# Altium integrated library Microchip PIC24E.IntLib: 110 symbols (part 6 of 8)
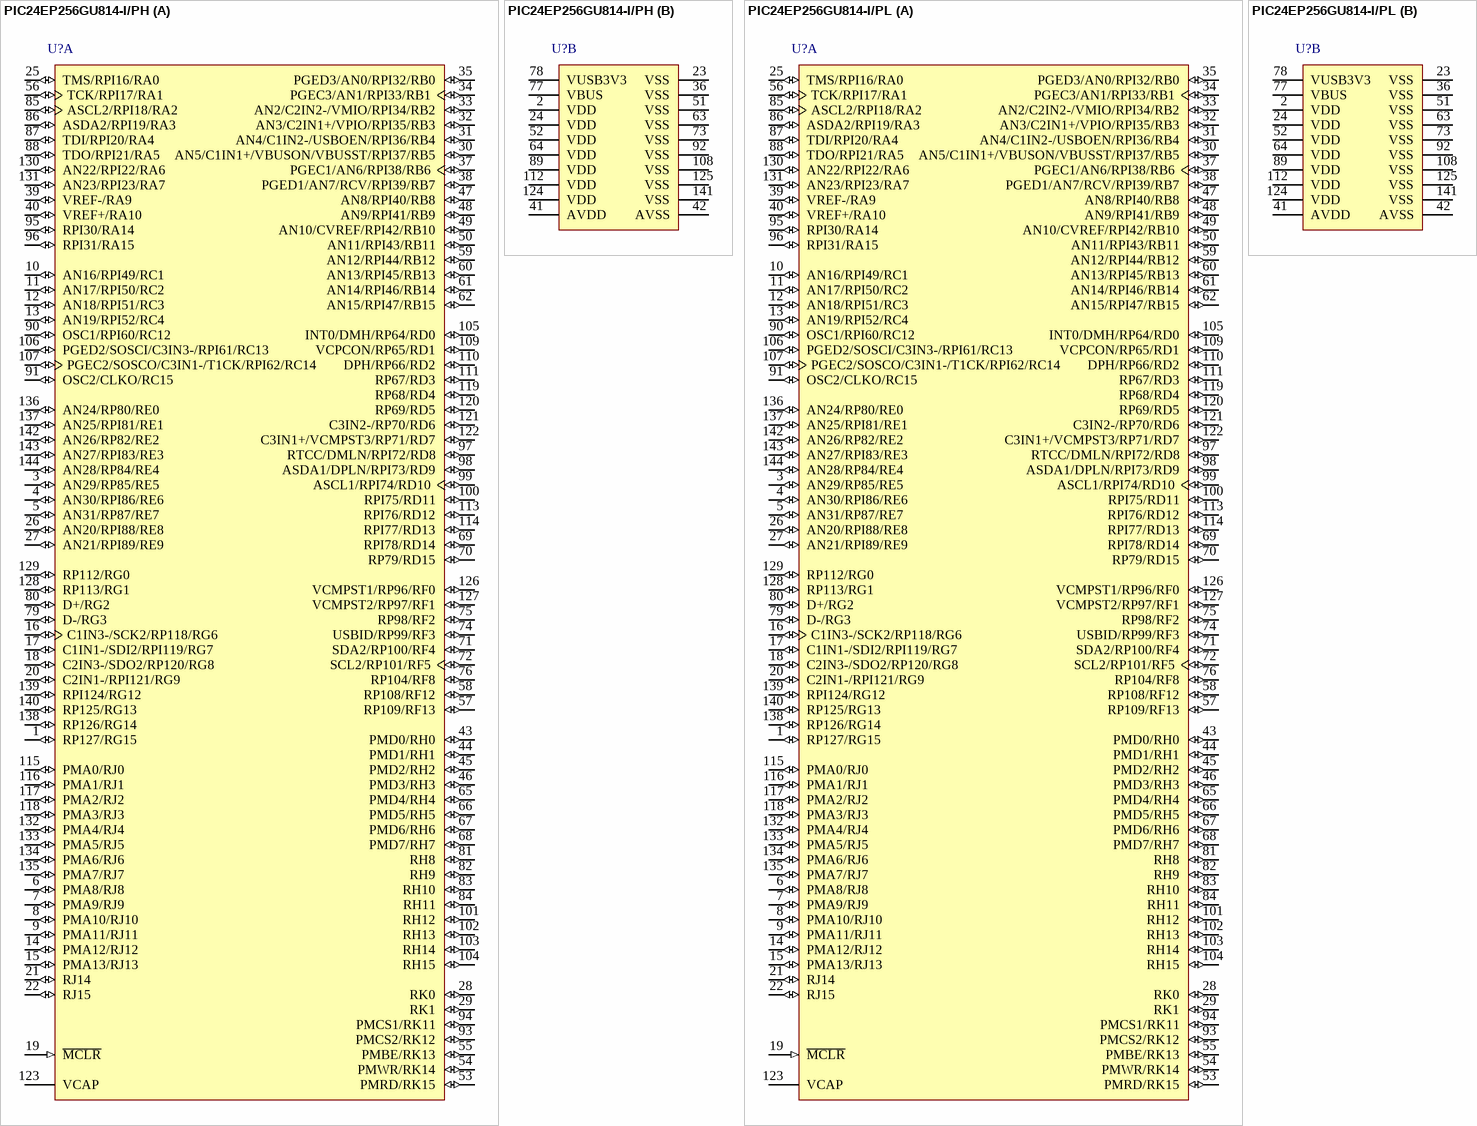
[diagram p38: symbols PIC24EP256GU814-I/PH to PIC24EP256GU814-I/PL]

## PIC24EP256GU814-I/PL
designator U?
16-Bit Microcontroller and Digital Signal Controllers with High-Speed PWM, USB and Advanced Analog, -40 to 85 degC, 144-pin LQFP (PL144), Tray; Manufacturer: Microchip; PartNumber: PIC24EP256GU814-I/PL; DatasheetVersion: Rev. G; PackageVersion: C04-044B; PackageReference: LQFP-PL144; PackageDescription: 144-Lead Plastic Low Profile Quad Flatpack, 20 x 20 mm Body, 0.5 mm Pitch; Supplier 1: Digi-Key; Supplier Part Number 1: PIC24EP256GU814-I/PL-ND; Supplier 2: Farnell; Supplier Part Number 2: 2062986; Supplier 3: Newark; Supplier Part Number 3: 65R6076; Supplier 4: Mouser; Supplier Part Number 4: 579-PIC24EPGU814IPL; Mounting Technology: Surface Mount; ComponentLink1Description: Manufacturer URL; ComponentLink1URL: http://www.microchip.com; ComponentLink2Description: Datasheet; ComponentLink2URL: http://ww1.microchip.com/downloads/en/DeviceDoc/70616g.pdf; ComponentLink3Description: Package Specification; ComponentLink3URL: http://www.microchip.com/stellent/groups/techpub_sg/documents/packagingspec/en012702.pdf; ComponentLink4Description: Product URL; ComponentLink4URL: http://www.microchip.com/PIC24EP256GU814
footprint MCHP-LQFP-PL144_N (QFP, 144-Leads, Body 20x20mm, Pitch 0.5mm, IPC Medium Density)
footprint MCHP-LQFP-PL144_L (QFP, 144-Leads, Body 20x20mm, Pitch 0.5mm, IPC High Density)
footprint MCHP-LQFP-PL144_M (QFP, 144-Leads, Body 20x20mm, Pitch 0.5mm, IPC Low Density)
part A pins: 1 RP127/RG15 (io), 3 AN29/RP85/RE5 (io), 4 AN30/RPI86/RE6 (io), 5 AN31/RP87/RE7 (io), 6 PMA8/RJ8 (io), 7 PMA9/RJ9 (io), 8 PMA10/RJ10 (io), 9 PMA11/RJ11 (io), 10 AN16/RPI49/RC1 (io), 11 AN17/RPI50/RC2 (io), 12 AN18/RPI51/RC3 (io), 13 AN19/RPI52/RC4 (io), 14 PMA12/RJ12 (io), 15 PMA13/RJ13 (io), 16 C1IN3-/SCK2/RP118/RG6 (io), 17 C1IN1-/SDI2/RPI119/RG7 (io), 18 C2IN3-/SDO2/RP120/RG8 (io), 19 ~{MCLR} (in), 20 C2IN1-/RPI121/RG9 (io), 21 RJ14 (io) "PORTJ is a bidirectional I/O port.", 22 RJ15 (io) "PORTJ is a bidirectional I/O port.", 25 TMS/RPI16/RA0 (io), 26 AN20/RPI88/RE8 (io), 27 AN21/RPI89/RE9 (io), 28 RK0 (io) "PORTK is a bidirectional I/O port.", 29 RK1 (io) "PORTK is a bidirectional I/O port.", 30 AN5/C1IN1+/VBUSON/VBUSST/RPI37/RB5 (io), 31 AN4/C1IN2-/USBOEN/RPI36/RB4 (io), 32 AN3/C2IN1+/VPIO/RPI35/RB3 (io), 33 AN2/C2IN2-/VMIO/RPI34/RB2 (io), 34 PGEC3/AN1/RPI33/RB1 (io), 35 PGED3/AN0/RPI32/RB0 (io), 37 PGEC1/AN6/RPI38/RB6 (io), 38 PGED1/AN7/RCV/RPI39/RB7 (io), 39 VREF-/RA9 (io), 40 VREF+/RA10 (io), 43 PMD0/RH0 (io), 44 PMD1/RH1 (io), 45 PMD2/RH2 (io), 46 PMD3/RH3 (io), 47 AN8/RPI40/RB8 (io), 48 AN9/RPI41/RB9 (io), 49 AN10/CVREF/RPI42/RB10 (io), 50 AN11/RPI43/RB11 (io), 53 PMRD/RK15 (io), 54 PMWR/RK14 (io), 55 PMBE/RK13 (io), 56 TCK/RPI17/RA1 (io), 57 RP109/RF13 (io), 58 RP108/RF12 (io), 59 AN12/RPI44/RB12 (io), 60 AN13/RPI45/RB13 (io), 61 AN14/RPI46/RB14 (io), 62 AN15/RPI47/RB15 (io), 65 PMD4/RH4 (io), 66 PMD5/RH5 (io), 67 PMD6/RH6 (io), 68 PMD7/RH7 (io), 69 RPI78/RD14 (io), 70 RP79/RD15 (io), 71 SDA2/RP100/RF4 (io), 72 SCL2/RP101/RF5 (io), 74 USBID/RP99/RF3 (io), 75 RP98/RF2 (io), 76 RP104/RF8 (io), 79 D-/RG3 (io), 80 D+/RG2 (io), 81 RH8 (io) "PORTH is a bidirectional I/O port.", 82 RH9 (io) "PORTH is a bidirectional I/O port.", 83 RH10 (io) "PORTH is a bidirectional I/O port.", 84 RH11 (io) "PORTH is a bidirectional I/O port.", 85 ASCL2/RPI18/RA2 (io), 86 ASDA2/RPI19/RA3 (io), 87 TDI/RPI20/RA4 (io), 88 TDO/RPI21/RA5 (io), 90 OSC1/RPI60/RC12 (io), 91 OSC2/CLKO/RC15 (io), 93 PMCS2/RK12 (io), 94 PMCS1/RK11 (io), 95 RPI30/RA14 (io), 96 RPI31/RA15 (io), 97 RTCC/DMLN/RPI72/RD8 (io), 98 ASDA1/DPLN/RPI73/RD9 (io), 99 ASCL1/RPI74/RD10 (io), 100 RPI75/RD11 (io), 101 RH12 (io) "PORTH is a bidirectional I/O port.", 102 RH13 (io) "PORTH is a bidirectional I/O port.", 103 RH14 (io) "PORTH is a bidirectional I/O port.", 104 RH15 (io) "PORTH is a bidirectional I/O port.", 105 INT0/DMH/RP64/RD0 (io), 106 PGED2/SOSCI/C3IN3-/RPI61/RC13 (io), 107 PGEC2/SOSCO/C3IN1-/T1CK/RPI62/RC14 (io), 109 VCPCON/RP65/RD1 (io), 110 DPH/RP66/RD2 (io), 111 RP67/RD3 (io), 113 RPI76/RD12 (io), 114 RPI77/RD13 (io), 115 PMA0/RJ0 (io), 116 PMA1/RJ1 (io), 117 PMA2/RJ2 (io), 118 PMA3/RJ3 (io), 119 RP68/RD4 (io), 120 RP69/RD5 (io), 121 C3IN2-/RP70/RD6 (io), 122 C3IN1+/VCMPST3/RP71/RD7 (io), 123 VCAP "CPU logic filter capacitor connection.", 126 VCMPST1/RP96/RF0 (io), 127 VCMPST2/RP97/RF1 (io), 128 RP113/RG1 (io), 129 RP112/RG0 (io), 130 AN22/RPI22/RA6 (io), 131 AN23/RPI23/RA7 (io), 132 PMA4/RJ4 (io), 133 PMA5/RJ5 (io), 134 PMA6/RJ6 (io), 135 PMA7/RJ7 (io), 136 AN24/RP80/RE0 (io), 137 AN25/RPI81/RE1 (io), 138 RP126/RG14 (io), 139 RPI124/RG12 (io), 140 RP125/RG13 (io), 142 AN26/RP82/RE2 (io), 143 AN27/RPI83/RE3 (io), 144 AN28/RP84/RE4 (io)
part B pins: 2 VDD (power) "Positive supply for peripheral logic and I/O pins.", 23 VSS (power) "Ground reference for logic and I/O pins.", 24 VDD (power) "Positive supply for peripheral logic and I/O pins.", 36 VSS (power), 41 AVDD (power) "Positive supply for analog modules. This pin must be connected at all times.", 42 AVSS (power) "Ground reference for analog modules.", 51 VSS (power) "Ground reference for logic and I/O pins.", 52 VDD (power) "Positive supply for peripheral logic and I/O pins.", 63 VSS (power) "Ground reference for logic and I/O pins.", 64 VDD (power) "Positive supply for peripheral logic and I/O pins.", 73 VSS (power) "Ground reference for logic and I/O pins.", 77 VBUS (power) "USB bus power monitor.", 78 VUSB3V3 (power) "USB internal transceiver supply. If the USB module is not being used, this pin must be connected to VDD.", 89 VDD (power) "Positive supply for peripheral logic and I/O pins.", 92 VSS (power) "Ground reference for logic and I/O pins.", 108 VSS (power) "Ground reference for logic and I/O pins.", 112 VDD (power) "Positive supply for peripheral logic and I/O pins.", 124 VDD (power) "Positive supply for peripheral logic and I/O pins.", 125 VSS (power) "Ground reference for logic and I/O pins.", 141 VSS (power) "Ground reference for logic and I/O pins."

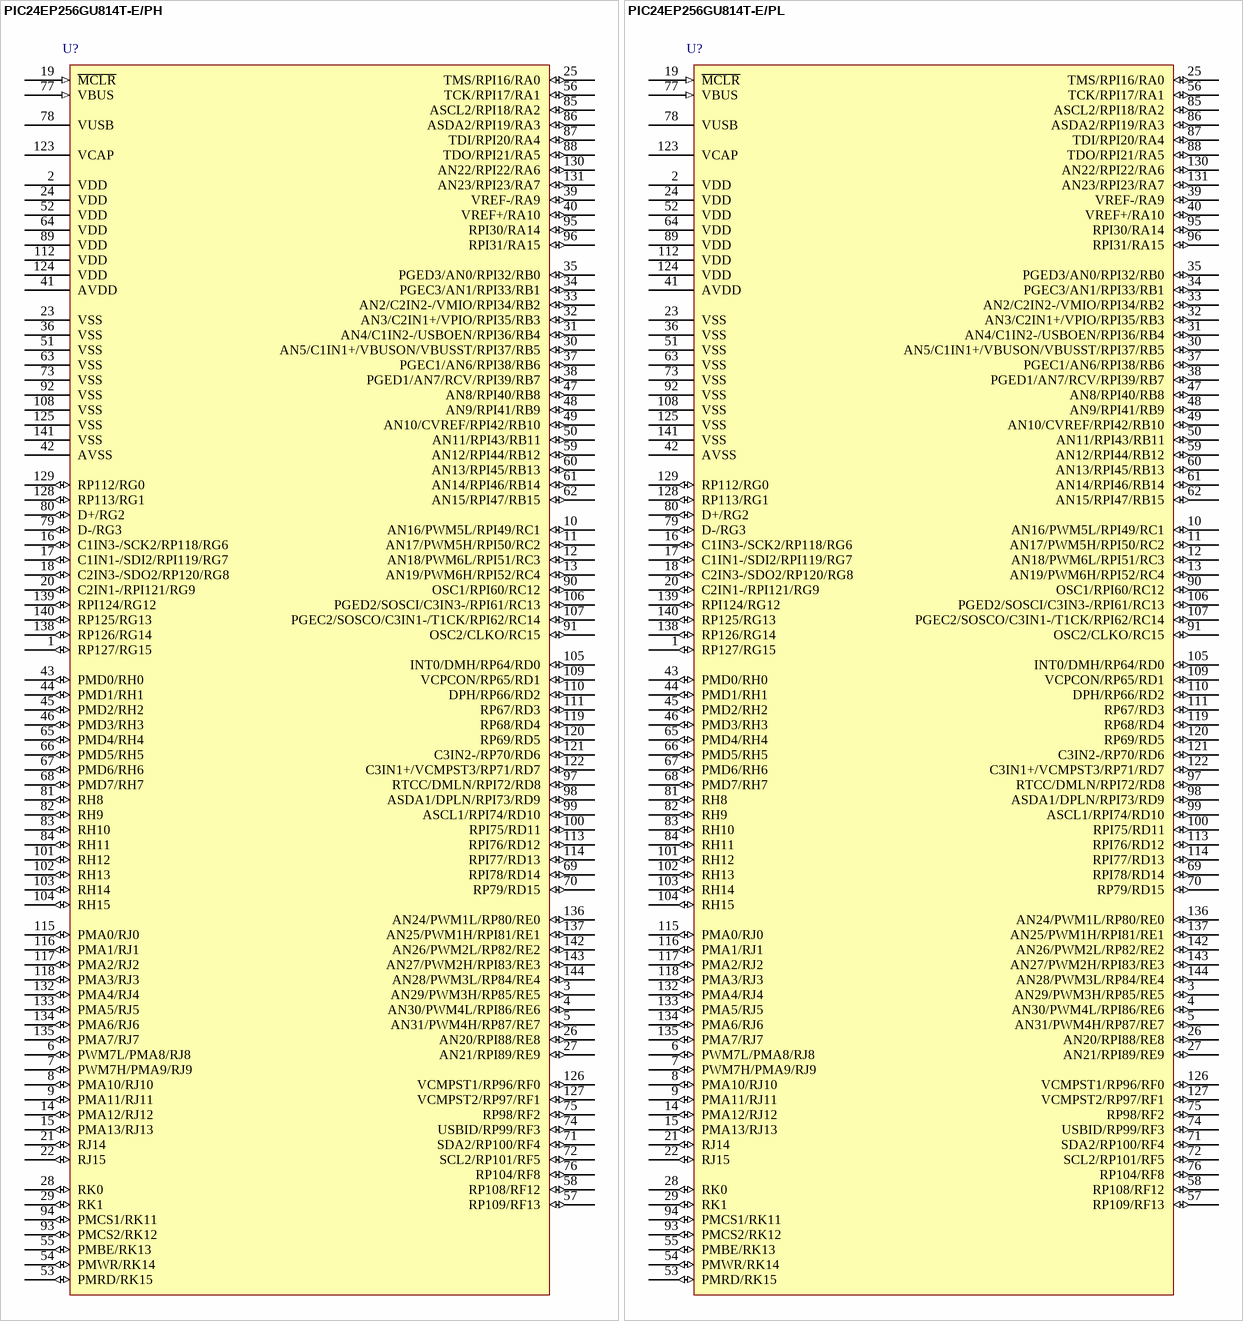
[diagram p20: symbols PIC24EP256GU814T-E/PH to PIC24EP256GU814T-E/PL]

## PIC24EP256GU814T-E/PH
designator U?
General Purpose 16-bit Microcontroller with USB, Enhanced Performance Flash Memory, 256 KB Program Memory, 144-Pin TQFP, Extended Temperature; Manufacturer: Microchip; PartNumber: PIC24EP256GU814T-E/PH; DatasheetVersion: Aug-2011; PackageVersion: revBG, Mar-2011; PackageReference: TQFP-PH144; PackageDescription: 144-Lead Plastic Thin Quad Flatpack (PH) - 16x16x1mm Body, 2.00mm Footprint [TQFP]; Mounting Technology: Surface Mount; ComponentLink1Description: Manufacturer URL; ComponentLink1URL: http://www.microchip.com/; ComponentLink2Description: Datasheet; ComponentLink2URL: http://ww1.microchip.com/downloads/en/DeviceDoc/70616E.pdf; ComponentLink3Description: Package Specification; ComponentLink3URL: http://www.microchip.com/stellent/groups/techpub_sg/documents/packagingspec/en012702.pdf
footprint TQFP-PH144_N (Thin QFP, 144-Leads, Body 16x16mm, Pitch 0.4mm, IPC Medium Density)
footprint TQFP-PH144_L (Thin QFP, 144-Leads, Body 16x16mm, Pitch 0.4mm, IPC High Density)
footprint TQFP-PH144_M (Thin QFP, 144-Leads, Body 16x16mm, Pitch 0.4mm, IPC Low Density)
pins: 1 RP127/RG15 (io), 2 VDD (power), 3 AN29/PWM3H/RP85/RE5 (io), 4 AN30/PWM4L/RPI86/RE6 (io), 5 AN31/PWM4H/RP87/RE7 (io), 6 PWM7L/PMA8/RJ8 (io), 7 PWM7H/PMA9/RJ9 (io), 8 PMA10/RJ10 (io), 9 PMA11/RJ11 (io), 10 AN16/PWM5L/RPI49/RC1 (io), 11 AN17/PWM5H/RPI50/RC2 (io), 12 AN18/PWM6L/RPI51/RC3 (io), 13 AN19/PWM6H/RPI52/RC4 (io), 14 PMA12/RJ12 (io), 15 PMA13/RJ13 (io), 16 C1IN3-/SCK2/RP118/RG6 (io), 17 C1IN1-/SDI2/RPI119/RG7 (io), 18 C2IN3-/SDO2/RP120/RG8 (io), 19 ~{MCLR} (in), 20 C2IN1-/RPI121/RG9 (io), 21 RJ14 (io), 22 RJ15 (io), 23 VSS (power), 24 VDD (power), 25 TMS/RPI16/RA0 (io), 26 AN20/RPI88/RE8 (io), 27 AN21/RPI89/RE9 (io), 28 RK0 (io), 29 RK1 (io), 30 AN5/C1IN1+/VBUSON/VBUSST/RPI37/RB5 (io), 31 AN4/C1IN2-/USBOEN/RPI36/RB4 (io), 32 AN3/C2IN1+/VPIO/RPI35/RB3 (io), 33 AN2/C2IN2-/VMIO/RPI34/RB2 (io), 34 PGEC3/AN1/RPI33/RB1 (io), 35 PGED3/AN0/RPI32/RB0 (io), 36 VSS (power), 37 PGEC1/AN6/RPI38/RB6 (io), 38 PGED1/AN7/RCV/RPI39/RB7 (io), 39 VREF-/RA9 (io), 40 VREF+/RA10 (io), 41 AVDD (power), 42 AVSS (power), 43 PMD0/RH0 (io), 44 PMD1/RH1 (io), 45 PMD2/RH2 (io), 46 PMD3/RH3 (io), 47 AN8/RPI40/RB8 (io), 48 AN9/RPI41/RB9 (io), 49 AN10/CVREF/RPI42/RB10 (io), 50 AN11/RPI43/RB11 (io), 51 VSS (power), 52 VDD (power), 53 PMRD/RK15 (io), 54 PMWR/RK14 (io), 55 PMBE/RK13 (io), 56 TCK/RPI17/RA1 (io), 57 RP109/RF13 (io), 58 RP108/RF12 (io), 59 AN12/RPI44/RB12 (io), 60 AN13/RPI45/RB13 (io), 61 AN14/RPI46/RB14 (io), 62 AN15/RPI47/RB15 (io), 63 VSS (power), 64 VDD (power), 65 PMD4/RH4 (io), 66 PMD5/RH5 (io), 67 PMD6/RH6 (io), 68 PMD7/RH7 (io), 69 RPI78/RD14 (io), 70 RP79/RD15 (io), 71 SDA2/RP100/RF4 (io), 72 SCL2/RP101/RF5 (io), 73 VSS (power), 74 USBID/RP99/RF3 (io), 75 RP98/RF2 (io), 76 RP104/RF8 (io), 77 VBUS (in), 78 VUSB (power), 79 D-/RG3 (io), 80 D+/RG2 (io), 81 RH8 (io), 82 RH9 (io), 83 RH10 (io), 84 RH11 (io), 85 ASCL2/RPI18/RA2 (io), 86 ASDA2/RPI19/RA3 (io), 87 TDI/RPI20/RA4 (io), 88 TDO/RPI21/RA5 (io), 89 VDD (power), 90 OSC1/RPI60/RC12 (io), 91 OSC2/CLKO/RC15 (io), 92 VSS (power), 93 PMCS2/RK12 (io), 94 PMCS1/RK11 (io), 95 RPI30/RA14 (io), 96 RPI31/RA15 (io), 97 RTCC/DMLN/RPI72/RD8 (io), 98 ASDA1/DPLN/RPI73/RD9 (io), 99 ASCL1/RPI74/RD10 (io), 100 RPI75/RD11 (io), 101 RH12 (io), 102 RH13 (io), 103 RH14 (io), 104 RH15 (io), 105 INT0/DMH/RP64/RD0 (io), 106 PGED2/SOSCI/C3IN3-/RPI61/RC13 (io), 107 PGEC2/SOSCO/C3IN1-/T1CK/RPI62/RC14 (io), 108 VSS (power), 109 VCPCON/RP65/RD1 (io), 110 DPH/RP66/RD2 (io), 111 RP67/RD3 (io), 112 VDD (power), 113 RPI76/RD12 (io), 114 RPI77/RD13 (io), 115 PMA0/RJ0 (io), 116 PMA1/RJ1 (io), 117 PMA2/RJ2 (io), 118 PMA3/RJ3 (io), 119 RP68/RD4 (io), 120 RP69/RD5 (io), 121 C3IN2-/RP70/RD6 (io), 122 C3IN1+/VCMPST3/RP71/RD7 (io), 123 VCAP, 124 VDD (power), 125 VSS (power), 126 VCMPST1/RP96/RF0 (io), 127 VCMPST2/RP97/RF1 (io), 128 RP113/RG1 (io), 129 RP112/RG0 (io), 130 AN22/RPI22/RA6 (io), 131 AN23/RPI23/RA7 (io), 132 PMA4/RJ4 (io), 133 PMA5/RJ5 (io), 134 PMA6/RJ6 (io), 135 PMA7/RJ7 (io), 136 AN24/PWM1L/RP80/RE0 (io), 137 AN25/PWM1H/RPI81/RE1 (io), 138 RP126/RG14 (io), 139 RPI124/RG12 (io), 140 RP125/RG13 (io), 141 VSS (power), 142 AN26/PWM2L/RP82/RE2 (io), 143 AN27/PWM2H/RPI83/RE3 (io), 144 AN28/PWM3L/RP84/RE4 (io)

## PIC24EP256GU814T-E/PL
designator U?
General Purpose 16-bit Microcontroller with USB, Enhanced Performance Flash Memory, 256 KB Program Memory, 144-Pin LQFP, Extended Temperature; Manufacturer: Microchip; PartNumber: PIC24EP256GU814T-E/PL; DatasheetVersion: Aug-2011; PackageVersion: revBG, Mar-2011; PackageReference: LQFP-PL144; PackageDescription: 144-Lead Plastic Low Profile Quad Flatpack (PL) - 20x20x1.4mm Body, 2.00mm Footprint [LQFP]; Mounting Technology: Surface Mount; ComponentLink1Description: Manufacturer URL; ComponentLink1URL: http://www.microchip.com/; ComponentLink2Description: Datasheet; ComponentLink2URL: http://ww1.microchip.com/downloads/en/DeviceDoc/70616E.pdf; ComponentLink3Description: Package Specification; ComponentLink3URL: http://www.microchip.com/stellent/groups/techpub_sg/documents/packagingspec/en012702.pdf
footprint LQFP-PL144_N (Thin QFP, 144-Leads, Body 20x20mm, Pitch 0.5mm, IPC Medium Density)
footprint LQFP-PL144_L (Thin QFP, 144-Leads, Body 20x20mm, Pitch 0.5mm, IPC High Density)
footprint LQFP-PL144_M (Thin QFP, 144-Leads, Body 20x20mm, Pitch 0.5mm, IPC Low Density)
pins: 1 RP127/RG15 (io), 2 VDD (power), 3 AN29/PWM3H/RP85/RE5 (io), 4 AN30/PWM4L/RPI86/RE6 (io), 5 AN31/PWM4H/RP87/RE7 (io), 6 PWM7L/PMA8/RJ8 (io), 7 PWM7H/PMA9/RJ9 (io), 8 PMA10/RJ10 (io), 9 PMA11/RJ11 (io), 10 AN16/PWM5L/RPI49/RC1 (io), 11 AN17/PWM5H/RPI50/RC2 (io), 12 AN18/PWM6L/RPI51/RC3 (io), 13 AN19/PWM6H/RPI52/RC4 (io), 14 PMA12/RJ12 (io), 15 PMA13/RJ13 (io), 16 C1IN3-/SCK2/RP118/RG6 (io), 17 C1IN1-/SDI2/RPI119/RG7 (io), 18 C2IN3-/SDO2/RP120/RG8 (io), 19 ~{MCLR} (in), 20 C2IN1-/RPI121/RG9 (io), 21 RJ14 (io), 22 RJ15 (io), 23 VSS (power), 24 VDD (power), 25 TMS/RPI16/RA0 (io), 26 AN20/RPI88/RE8 (io), 27 AN21/RPI89/RE9 (io), 28 RK0 (io), 29 RK1 (io), 30 AN5/C1IN1+/VBUSON/VBUSST/RPI37/RB5 (io), 31 AN4/C1IN2-/USBOEN/RPI36/RB4 (io), 32 AN3/C2IN1+/VPIO/RPI35/RB3 (io), 33 AN2/C2IN2-/VMIO/RPI34/RB2 (io), 34 PGEC3/AN1/RPI33/RB1 (io), 35 PGED3/AN0/RPI32/RB0 (io), 36 VSS (power), 37 PGEC1/AN6/RPI38/RB6 (io), 38 PGED1/AN7/RCV/RPI39/RB7 (io), 39 VREF-/RA9 (io), 40 VREF+/RA10 (io), 41 AVDD (power), 42 AVSS (power), 43 PMD0/RH0 (io), 44 PMD1/RH1 (io), 45 PMD2/RH2 (io), 46 PMD3/RH3 (io), 47 AN8/RPI40/RB8 (io), 48 AN9/RPI41/RB9 (io), 49 AN10/CVREF/RPI42/RB10 (io), 50 AN11/RPI43/RB11 (io), 51 VSS (power), 52 VDD (power), 53 PMRD/RK15 (io), 54 PMWR/RK14 (io), 55 PMBE/RK13 (io), 56 TCK/RPI17/RA1 (io), 57 RP109/RF13 (io), 58 RP108/RF12 (io), 59 AN12/RPI44/RB12 (io), 60 AN13/RPI45/RB13 (io), 61 AN14/RPI46/RB14 (io), 62 AN15/RPI47/RB15 (io), 63 VSS (power), 64 VDD (power), 65 PMD4/RH4 (io), 66 PMD5/RH5 (io), 67 PMD6/RH6 (io), 68 PMD7/RH7 (io), 69 RPI78/RD14 (io), 70 RP79/RD15 (io), 71 SDA2/RP100/RF4 (io), 72 SCL2/RP101/RF5 (io), 73 VSS (power), 74 USBID/RP99/RF3 (io), 75 RP98/RF2 (io), 76 RP104/RF8 (io), 77 VBUS (in), 78 VUSB (power), 79 D-/RG3 (io), 80 D+/RG2 (io), 81 RH8 (io), 82 RH9 (io), 83 RH10 (io), 84 RH11 (io), 85 ASCL2/RPI18/RA2 (io), 86 ASDA2/RPI19/RA3 (io), 87 TDI/RPI20/RA4 (io), 88 TDO/RPI21/RA5 (io), 89 VDD (power), 90 OSC1/RPI60/RC12 (io), 91 OSC2/CLKO/RC15 (io), 92 VSS (power), 93 PMCS2/RK12 (io), 94 PMCS1/RK11 (io), 95 RPI30/RA14 (io), 96 RPI31/RA15 (io), 97 RTCC/DMLN/RPI72/RD8 (io), 98 ASDA1/DPLN/RPI73/RD9 (io), 99 ASCL1/RPI74/RD10 (io), 100 RPI75/RD11 (io), 101 RH12 (io), 102 RH13 (io), 103 RH14 (io), 104 RH15 (io), 105 INT0/DMH/RP64/RD0 (io), 106 PGED2/SOSCI/C3IN3-/RPI61/RC13 (io), 107 PGEC2/SOSCO/C3IN1-/T1CK/RPI62/RC14 (io), 108 VSS (power), 109 VCPCON/RP65/RD1 (io), 110 DPH/RP66/RD2 (io), 111 RP67/RD3 (io), 112 VDD (power), 113 RPI76/RD12 (io), 114 RPI77/RD13 (io), 115 PMA0/RJ0 (io), 116 PMA1/RJ1 (io), 117 PMA2/RJ2 (io), 118 PMA3/RJ3 (io), 119 RP68/RD4 (io), 120 RP69/RD5 (io), 121 C3IN2-/RP70/RD6 (io), 122 C3IN1+/VCMPST3/RP71/RD7 (io), 123 VCAP, 124 VDD (power), 125 VSS (power), 126 VCMPST1/RP96/RF0 (io), 127 VCMPST2/RP97/RF1 (io), 128 RP113/RG1 (io), 129 RP112/RG0 (io), 130 AN22/RPI22/RA6 (io), 131 AN23/RPI23/RA7 (io), 132 PMA4/RJ4 (io), 133 PMA5/RJ5 (io), 134 PMA6/RJ6 (io), 135 PMA7/RJ7 (io), 136 AN24/PWM1L/RP80/RE0 (io), 137 AN25/PWM1H/RPI81/RE1 (io), 138 RP126/RG14 (io), 139 RPI124/RG12 (io), 140 RP125/RG13 (io), 141 VSS (power), 142 AN26/PWM2L/RP82/RE2 (io), 143 AN27/PWM2H/RPI83/RE3 (io), 144 AN28/PWM3L/RP84/RE4 (io)

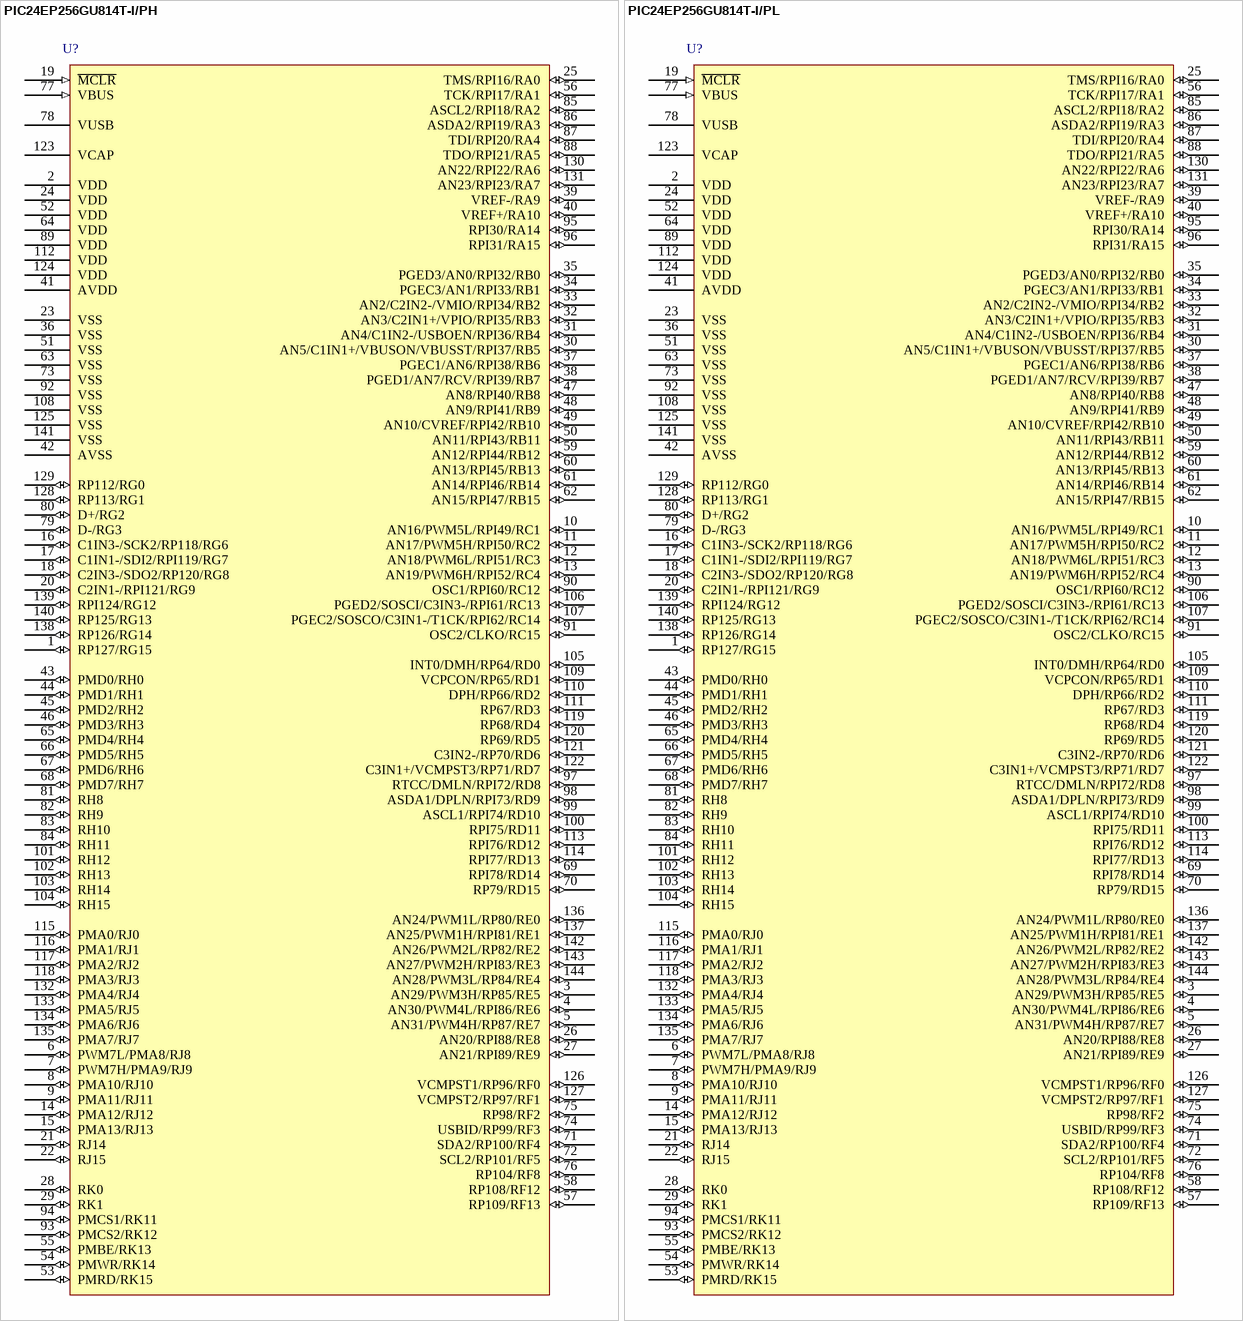
[diagram p21: symbols PIC24EP256GU814T-I/PH to PIC24EP256GU814T-I/PL]

## PIC24EP256GU814T-I/PH
designator U?
General Purpose 16-bit Microcontroller with USB, Enhanced Performance Flash Memory, 256 KB Program Memory, 144-Pin TQFP, Industrial Temperature; Manufacturer: Microchip; PartNumber: PIC24EP256GU814T-I/PH; DatasheetVersion: Aug-2011; PackageVersion: revBG, Mar-2011; PackageReference: TQFP-PH144; PackageDescription: 144-Lead Plastic Thin Quad Flatpack (PH) - 16x16x1mm Body, 2.00mm Footprint [TQFP]; Mounting Technology: Surface Mount; ComponentLink1Description: Manufacturer URL; ComponentLink1URL: http://www.microchip.com/; ComponentLink2Description: Datasheet; ComponentLink2URL: http://ww1.microchip.com/downloads/en/DeviceDoc/70616E.pdf; ComponentLink3Description: Package Specification; ComponentLink3URL: http://www.microchip.com/stellent/groups/techpub_sg/documents/packagingspec/en012702.pdf
footprint TQFP-PH144_N (Thin QFP, 144-Leads, Body 16x16mm, Pitch 0.4mm, IPC Medium Density)
footprint TQFP-PH144_L (Thin QFP, 144-Leads, Body 16x16mm, Pitch 0.4mm, IPC High Density)
footprint TQFP-PH144_M (Thin QFP, 144-Leads, Body 16x16mm, Pitch 0.4mm, IPC Low Density)
pins: 1 RP127/RG15 (io), 2 VDD (power), 3 AN29/PWM3H/RP85/RE5 (io), 4 AN30/PWM4L/RPI86/RE6 (io), 5 AN31/PWM4H/RP87/RE7 (io), 6 PWM7L/PMA8/RJ8 (io), 7 PWM7H/PMA9/RJ9 (io), 8 PMA10/RJ10 (io), 9 PMA11/RJ11 (io), 10 AN16/PWM5L/RPI49/RC1 (io), 11 AN17/PWM5H/RPI50/RC2 (io), 12 AN18/PWM6L/RPI51/RC3 (io), 13 AN19/PWM6H/RPI52/RC4 (io), 14 PMA12/RJ12 (io), 15 PMA13/RJ13 (io), 16 C1IN3-/SCK2/RP118/RG6 (io), 17 C1IN1-/SDI2/RPI119/RG7 (io), 18 C2IN3-/SDO2/RP120/RG8 (io), 19 ~{MCLR} (in), 20 C2IN1-/RPI121/RG9 (io), 21 RJ14 (io), 22 RJ15 (io), 23 VSS (power), 24 VDD (power), 25 TMS/RPI16/RA0 (io), 26 AN20/RPI88/RE8 (io), 27 AN21/RPI89/RE9 (io), 28 RK0 (io), 29 RK1 (io), 30 AN5/C1IN1+/VBUSON/VBUSST/RPI37/RB5 (io), 31 AN4/C1IN2-/USBOEN/RPI36/RB4 (io), 32 AN3/C2IN1+/VPIO/RPI35/RB3 (io), 33 AN2/C2IN2-/VMIO/RPI34/RB2 (io), 34 PGEC3/AN1/RPI33/RB1 (io), 35 PGED3/AN0/RPI32/RB0 (io), 36 VSS (power), 37 PGEC1/AN6/RPI38/RB6 (io), 38 PGED1/AN7/RCV/RPI39/RB7 (io), 39 VREF-/RA9 (io), 40 VREF+/RA10 (io), 41 AVDD (power), 42 AVSS (power), 43 PMD0/RH0 (io), 44 PMD1/RH1 (io), 45 PMD2/RH2 (io), 46 PMD3/RH3 (io), 47 AN8/RPI40/RB8 (io), 48 AN9/RPI41/RB9 (io), 49 AN10/CVREF/RPI42/RB10 (io), 50 AN11/RPI43/RB11 (io), 51 VSS (power), 52 VDD (power), 53 PMRD/RK15 (io), 54 PMWR/RK14 (io), 55 PMBE/RK13 (io), 56 TCK/RPI17/RA1 (io), 57 RP109/RF13 (io), 58 RP108/RF12 (io), 59 AN12/RPI44/RB12 (io), 60 AN13/RPI45/RB13 (io), 61 AN14/RPI46/RB14 (io), 62 AN15/RPI47/RB15 (io), 63 VSS (power), 64 VDD (power), 65 PMD4/RH4 (io), 66 PMD5/RH5 (io), 67 PMD6/RH6 (io), 68 PMD7/RH7 (io), 69 RPI78/RD14 (io), 70 RP79/RD15 (io), 71 SDA2/RP100/RF4 (io), 72 SCL2/RP101/RF5 (io), 73 VSS (power), 74 USBID/RP99/RF3 (io), 75 RP98/RF2 (io), 76 RP104/RF8 (io), 77 VBUS (in), 78 VUSB (power), 79 D-/RG3 (io), 80 D+/RG2 (io), 81 RH8 (io), 82 RH9 (io), 83 RH10 (io), 84 RH11 (io), 85 ASCL2/RPI18/RA2 (io), 86 ASDA2/RPI19/RA3 (io), 87 TDI/RPI20/RA4 (io), 88 TDO/RPI21/RA5 (io), 89 VDD (power), 90 OSC1/RPI60/RC12 (io), 91 OSC2/CLKO/RC15 (io), 92 VSS (power), 93 PMCS2/RK12 (io), 94 PMCS1/RK11 (io), 95 RPI30/RA14 (io), 96 RPI31/RA15 (io), 97 RTCC/DMLN/RPI72/RD8 (io), 98 ASDA1/DPLN/RPI73/RD9 (io), 99 ASCL1/RPI74/RD10 (io), 100 RPI75/RD11 (io), 101 RH12 (io), 102 RH13 (io), 103 RH14 (io), 104 RH15 (io), 105 INT0/DMH/RP64/RD0 (io), 106 PGED2/SOSCI/C3IN3-/RPI61/RC13 (io), 107 PGEC2/SOSCO/C3IN1-/T1CK/RPI62/RC14 (io), 108 VSS (power), 109 VCPCON/RP65/RD1 (io), 110 DPH/RP66/RD2 (io), 111 RP67/RD3 (io), 112 VDD (power), 113 RPI76/RD12 (io), 114 RPI77/RD13 (io), 115 PMA0/RJ0 (io), 116 PMA1/RJ1 (io), 117 PMA2/RJ2 (io), 118 PMA3/RJ3 (io), 119 RP68/RD4 (io), 120 RP69/RD5 (io), 121 C3IN2-/RP70/RD6 (io), 122 C3IN1+/VCMPST3/RP71/RD7 (io), 123 VCAP, 124 VDD (power), 125 VSS (power), 126 VCMPST1/RP96/RF0 (io), 127 VCMPST2/RP97/RF1 (io), 128 RP113/RG1 (io), 129 RP112/RG0 (io), 130 AN22/RPI22/RA6 (io), 131 AN23/RPI23/RA7 (io), 132 PMA4/RJ4 (io), 133 PMA5/RJ5 (io), 134 PMA6/RJ6 (io), 135 PMA7/RJ7 (io), 136 AN24/PWM1L/RP80/RE0 (io), 137 AN25/PWM1H/RPI81/RE1 (io), 138 RP126/RG14 (io), 139 RPI124/RG12 (io), 140 RP125/RG13 (io), 141 VSS (power), 142 AN26/PWM2L/RP82/RE2 (io), 143 AN27/PWM2H/RPI83/RE3 (io), 144 AN28/PWM3L/RP84/RE4 (io)

## PIC24EP256GU814T-I/PL
designator U?
General Purpose 16-bit Microcontroller with USB, Enhanced Performance Flash Memory, 256 KB Program Memory, 144-Pin LQFP, Industrial Temperature; Manufacturer: Microchip; PartNumber: PIC24EP256GU814T-I/PL; DatasheetVersion: Aug-2011; PackageVersion: revBG, Mar-2011; PackageReference: LQFP-PL144; PackageDescription: 144-Lead Plastic Low Profile Quad Flatpack (PL) - 20x20x1.4mm Body, 2.00mm Footprint [LQFP]; Mounting Technology: Surface Mount; ComponentLink1Description: Manufacturer URL; ComponentLink1URL: http://www.microchip.com/; ComponentLink2Description: Datasheet; ComponentLink2URL: http://ww1.microchip.com/downloads/en/DeviceDoc/70616E.pdf; ComponentLink3Description: Package Specification; ComponentLink3URL: http://www.microchip.com/stellent/groups/techpub_sg/documents/packagingspec/en012702.pdf
footprint LQFP-PL144_N (Thin QFP, 144-Leads, Body 20x20mm, Pitch 0.5mm, IPC Medium Density)
footprint LQFP-PL144_L (Thin QFP, 144-Leads, Body 20x20mm, Pitch 0.5mm, IPC High Density)
footprint LQFP-PL144_M (Thin QFP, 144-Leads, Body 20x20mm, Pitch 0.5mm, IPC Low Density)
pins: 1 RP127/RG15 (io), 2 VDD (power), 3 AN29/PWM3H/RP85/RE5 (io), 4 AN30/PWM4L/RPI86/RE6 (io), 5 AN31/PWM4H/RP87/RE7 (io), 6 PWM7L/PMA8/RJ8 (io), 7 PWM7H/PMA9/RJ9 (io), 8 PMA10/RJ10 (io), 9 PMA11/RJ11 (io), 10 AN16/PWM5L/RPI49/RC1 (io), 11 AN17/PWM5H/RPI50/RC2 (io), 12 AN18/PWM6L/RPI51/RC3 (io), 13 AN19/PWM6H/RPI52/RC4 (io), 14 PMA12/RJ12 (io), 15 PMA13/RJ13 (io), 16 C1IN3-/SCK2/RP118/RG6 (io), 17 C1IN1-/SDI2/RPI119/RG7 (io), 18 C2IN3-/SDO2/RP120/RG8 (io), 19 ~{MCLR} (in), 20 C2IN1-/RPI121/RG9 (io), 21 RJ14 (io), 22 RJ15 (io), 23 VSS (power), 24 VDD (power), 25 TMS/RPI16/RA0 (io), 26 AN20/RPI88/RE8 (io), 27 AN21/RPI89/RE9 (io), 28 RK0 (io), 29 RK1 (io), 30 AN5/C1IN1+/VBUSON/VBUSST/RPI37/RB5 (io), 31 AN4/C1IN2-/USBOEN/RPI36/RB4 (io), 32 AN3/C2IN1+/VPIO/RPI35/RB3 (io), 33 AN2/C2IN2-/VMIO/RPI34/RB2 (io), 34 PGEC3/AN1/RPI33/RB1 (io), 35 PGED3/AN0/RPI32/RB0 (io), 36 VSS (power), 37 PGEC1/AN6/RPI38/RB6 (io), 38 PGED1/AN7/RCV/RPI39/RB7 (io), 39 VREF-/RA9 (io), 40 VREF+/RA10 (io), 41 AVDD (power), 42 AVSS (power), 43 PMD0/RH0 (io), 44 PMD1/RH1 (io), 45 PMD2/RH2 (io), 46 PMD3/RH3 (io), 47 AN8/RPI40/RB8 (io), 48 AN9/RPI41/RB9 (io), 49 AN10/CVREF/RPI42/RB10 (io), 50 AN11/RPI43/RB11 (io), 51 VSS (power), 52 VDD (power), 53 PMRD/RK15 (io), 54 PMWR/RK14 (io), 55 PMBE/RK13 (io), 56 TCK/RPI17/RA1 (io), 57 RP109/RF13 (io), 58 RP108/RF12 (io), 59 AN12/RPI44/RB12 (io), 60 AN13/RPI45/RB13 (io), 61 AN14/RPI46/RB14 (io), 62 AN15/RPI47/RB15 (io), 63 VSS (power), 64 VDD (power), 65 PMD4/RH4 (io), 66 PMD5/RH5 (io), 67 PMD6/RH6 (io), 68 PMD7/RH7 (io), 69 RPI78/RD14 (io), 70 RP79/RD15 (io), 71 SDA2/RP100/RF4 (io), 72 SCL2/RP101/RF5 (io), 73 VSS (power), 74 USBID/RP99/RF3 (io), 75 RP98/RF2 (io), 76 RP104/RF8 (io), 77 VBUS (in), 78 VUSB (power), 79 D-/RG3 (io), 80 D+/RG2 (io), 81 RH8 (io), 82 RH9 (io), 83 RH10 (io), 84 RH11 (io), 85 ASCL2/RPI18/RA2 (io), 86 ASDA2/RPI19/RA3 (io), 87 TDI/RPI20/RA4 (io), 88 TDO/RPI21/RA5 (io), 89 VDD (power), 90 OSC1/RPI60/RC12 (io), 91 OSC2/CLKO/RC15 (io), 92 VSS (power), 93 PMCS2/RK12 (io), 94 PMCS1/RK11 (io), 95 RPI30/RA14 (io), 96 RPI31/RA15 (io), 97 RTCC/DMLN/RPI72/RD8 (io), 98 ASDA1/DPLN/RPI73/RD9 (io), 99 ASCL1/RPI74/RD10 (io), 100 RPI75/RD11 (io), 101 RH12 (io), 102 RH13 (io), 103 RH14 (io), 104 RH15 (io), 105 INT0/DMH/RP64/RD0 (io), 106 PGED2/SOSCI/C3IN3-/RPI61/RC13 (io), 107 PGEC2/SOSCO/C3IN1-/T1CK/RPI62/RC14 (io), 108 VSS (power), 109 VCPCON/RP65/RD1 (io), 110 DPH/RP66/RD2 (io), 111 RP67/RD3 (io), 112 VDD (power), 113 RPI76/RD12 (io), 114 RPI77/RD13 (io), 115 PMA0/RJ0 (io), 116 PMA1/RJ1 (io), 117 PMA2/RJ2 (io), 118 PMA3/RJ3 (io), 119 RP68/RD4 (io), 120 RP69/RD5 (io), 121 C3IN2-/RP70/RD6 (io), 122 C3IN1+/VCMPST3/RP71/RD7 (io), 123 VCAP, 124 VDD (power), 125 VSS (power), 126 VCMPST1/RP96/RF0 (io), 127 VCMPST2/RP97/RF1 (io), 128 RP113/RG1 (io), 129 RP112/RG0 (io), 130 AN22/RPI22/RA6 (io), 131 AN23/RPI23/RA7 (io), 132 PMA4/RJ4 (io), 133 PMA5/RJ5 (io), 134 PMA6/RJ6 (io), 135 PMA7/RJ7 (io), 136 AN24/PWM1L/RP80/RE0 (io), 137 AN25/PWM1H/RPI81/RE1 (io), 138 RP126/RG14 (io), 139 RPI124/RG12 (io), 140 RP125/RG13 (io), 141 VSS (power), 142 AN26/PWM2L/RP82/RE2 (io), 143 AN27/PWM2H/RPI83/RE3 (io), 144 AN28/PWM3L/RP84/RE4 (io)

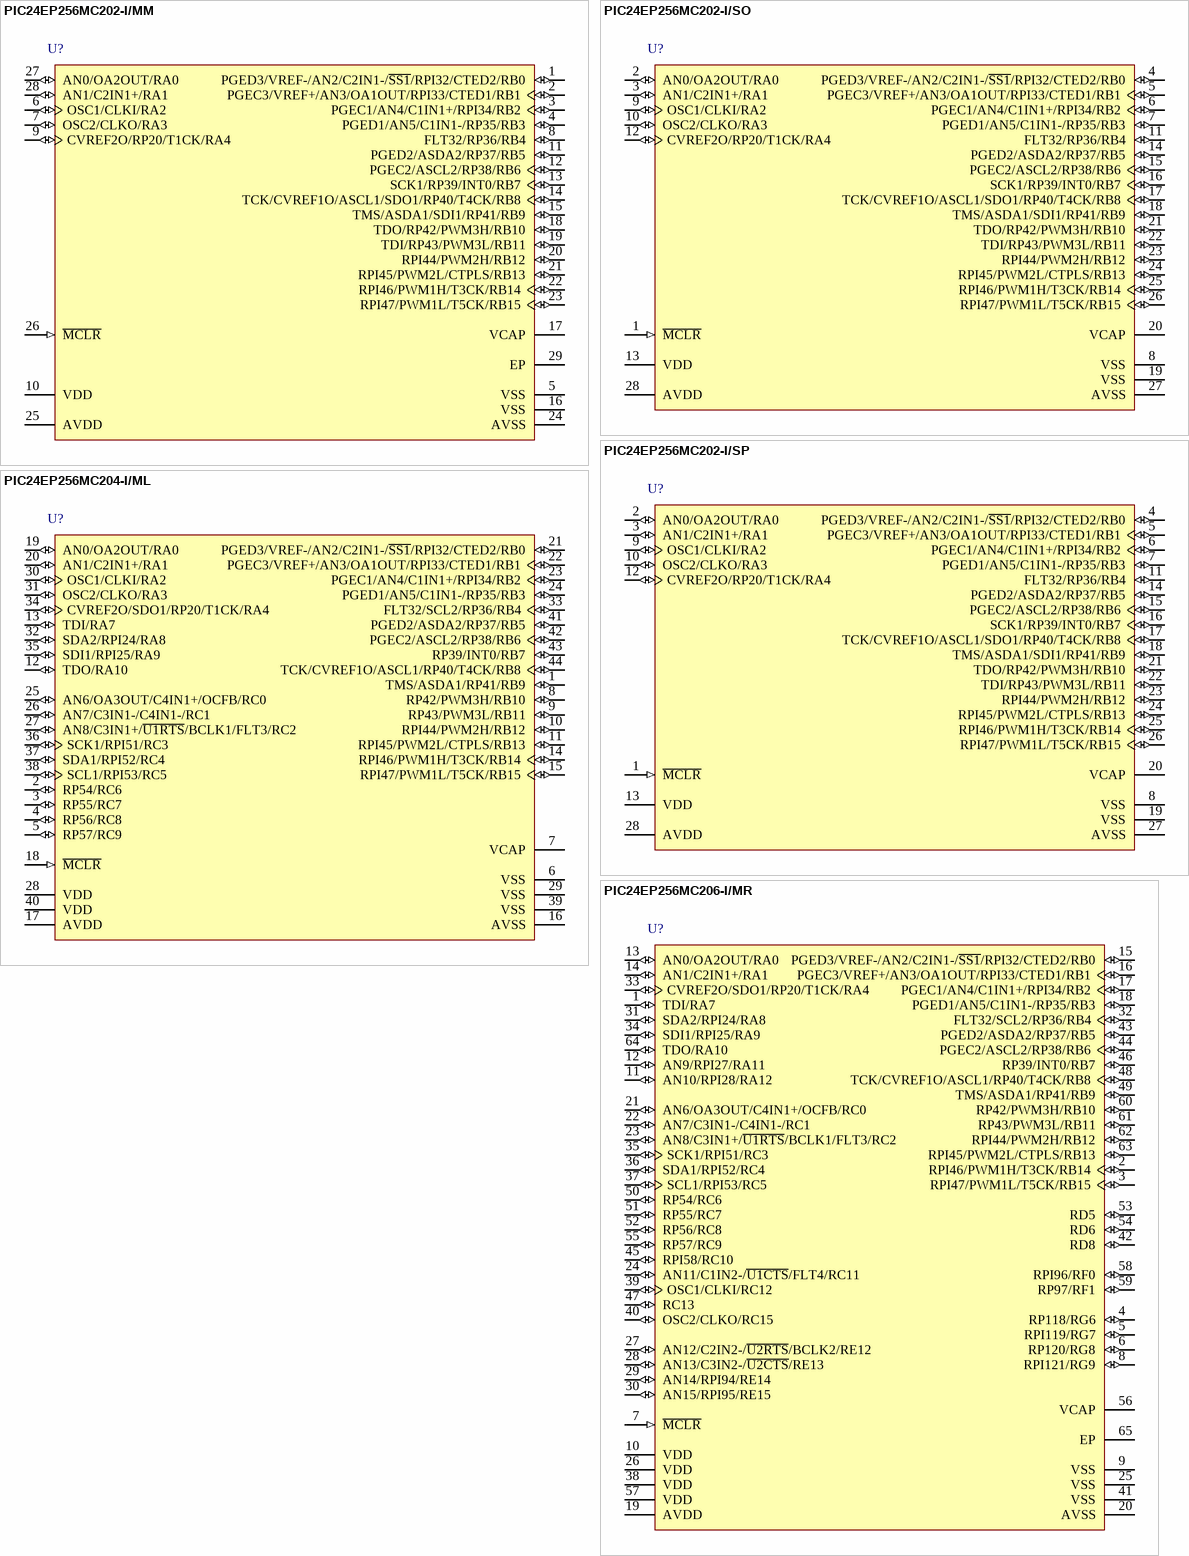
[diagram p22: symbols PIC24EP256MC202-I/MM to PIC24EP256MC206-I/MR]

## PIC24EP256MC202-I/MM
designator U?
16-Bit Microcontroller and Digital Signal Controller with High-Speed PWM, Op Amps and Advanced Analog, 70 MIPS, 21 I/O, GPIO, -40 to 85 degC, 28-pin QFN (MM28), Tube; Manufacturer: Microchip; PartNumber: PIC24EP256MC202-I/MM; DatasheetVersion: Rev. F; PackageVersion: C04-124C; PackageReference: QFN-MM28; PackageDescription: 28-Lead Plastic Quad Flat, 6 x 6 mm Body, 0.65 mm Pitch; Supplier 1: Digi-Key; Supplier Part Number 1: PIC24EP256MC202-I/MM-ND; Supplier 2: Farnell; Supplier Part Number 2: 2212170; Supplier 3: Newark; Supplier Part Number 3: 66T9162; Supplier 4: Mouser; Supplier Part Number 4: 579-PIC24256MC202IMM; Mounting Technology: Surface Mount; ComponentLink1Description: Manufacturer URL; ComponentLink1URL: http://www.microchip.com; ComponentLink2Description: Datasheet; ComponentLink2URL: http://ww1.microchip.com/downloads/en/DeviceDoc/70657F.pdf; ComponentLink3Description: Package Specification; ComponentLink3URL: http://www.microchip.com/stellent/groups/techpub_sg/documents/packagingspec/en012702.pdf; ComponentLink4Description: Product URL; ComponentLink4URL: http://www.microchip.com/PIC24EP256MC202
footprint MCHP-QFN-S-MM28_N (QFN, 28-Leads, Body 6x6mm, Pitch 0.65mm, Thermal Pad 4.175x4.175mm, IPC Medium Density)
footprint MCHP-QFN-S-MM28_L (QFN, 28-Leads, Body 6x6mm, Pitch 0.65mm, Thermal Pad 4.175x4.175mm, IPC High Density)
footprint MCHP-QFN-S-MM28_M (QFN, 28-Leads, Body 6x6mm, Pitch 0.65mm, Thermal Pad 4.175x4.175mm, IPC Low Density)
pins: 1 PGED3/VREF-/AN2/C2IN1-/~{SS1}/RPI32/CTED2/RB0 (io), 2 PGEC3/VREF+/AN3/OA1OUT/RPI33/CTED1/RB1 (io), 3 PGEC1/AN4/C1IN1+/RPI34/RB2 (io), 4 PGED1/AN5/C1IN1-/RP35/RB3 (io), 5 VSS (power) "Ground reference for logic and I/O pins.", 6 OSC1/CLKI/RA2 (io), 7 OSC2/CLKO/RA3 (io), 8 FLT32/RP36/RB4 (io), 9 CVREF2O/RP20/T1CK/RA4 (io), 10 VDD (power) "Positive supply for peripheral logic and I/O pins.", 11 PGED2/ASDA2/RP37/RB5 (io), 12 PGEC2/ASCL2/RP38/RB6 (io), 13 SCK1/RP39/INT0/RB7 (io), 14 TCK/CVREF1O/ASCL1/SDO1/RP40/T4CK/RB8 (io), 15 TMS/ASDA1/SDI1/RP41/RB9 (io), 16 VSS (power) "Ground reference for logic and I/O pins.", 17 VCAP "CPU logic filter capacitor connection", 18 TDO/RP42/PWM3H/RB10 (io), 19 TDI/RP43/PWM3L/RB11 (io), 20 RPI44/PWM2H/RB12 (io), 21 RPI45/PWM2L/CTPLS/RB13 (io), 22 RPI46/PWM1H/T3CK/RB14 (io), 23 RPI47/PWM1L/T5CK/RB15 (io), 24 AVSS (power) "Ground reference for analog modules. This pin must be connected at all times.", 25 AVDD (power) "Positive supply for analog modules. This pin must be connected at all times.", 26 ~{MCLR} (in) "Master Clear (Reset) input. This pin is an active-low Reset to the device.", 27 AN0/OA2OUT/RA0 (io), 28 AN1/C2IN1+/RA1 (io), 29 EP (power) "The metal pad at the bottom of the device is not connected to any pins and is recommended to be connected to VSS externally."

## PIC24EP256MC202-I/SO
designator U?
16-Bit Microcontroller and Digital Signal Controller with High-Speed PWM, Op Amps and Advanced Analog, 70 MIPS, 21 I/O, GPIO, -40 to 85 degC, 28-pin SOIC (SO28), Tube; Manufacturer: Microchip; PartNumber: PIC24EP256MC202-I/SO; DatasheetVersion: Rev. F; PackageVersion: C04-052C; PackageReference: SOIC-SO28; PackageDescription: 28-Lead Plastic Small Outline, 17.9 x 7.5 mm Body, 1.27 mm Pitch; Supplier 1: Digi-Key; Supplier Part Number 1: PIC24EP256MC202-I/SO-ND; Supplier 2: Farnell; Supplier Part Number 2: 2212169; Supplier 3: Newark; Supplier Part Number 3: 66T9163; Supplier 4: Mouser; Supplier Part Number 4: 579-PIC24256MC202ISO; Mounting Technology: Surface Mount; ComponentLink1Description: Manufacturer URL; ComponentLink1URL: http://www.microchip.com; ComponentLink2Description: Datasheet; ComponentLink2URL: http://ww1.microchip.com/downloads/en/DeviceDoc/70657F.pdf; ComponentLink3Description: Package Specification; ComponentLink3URL: http://www.microchip.com/stellent/groups/techpub_sg/documents/packagingspec/en012702.pdf; ComponentLink4Description: Product URL; ComponentLink4URL: http://www.microchip.com/PIC24EP256MC202
footprint MCHP-SOIC-SO28_N (SOIC, 28-Leads, Body 17.9x7.5mm, Pitch 1.27mm, IPC Medium Density)
footprint MCHP-SOIC-SO28_L (SOIC, 28-Leads, Body 17.9x7.5mm, Pitch 1.27mm, IPC High Density)
footprint MCHP-SOIC-SO28_M (SOIC, 28-Leads, Body 17.9x7.5mm, Pitch 1.27mm, IPC Low Density)
pins: 1 ~{MCLR} (in) "Master Clear (Reset) input. This pin is an active-low Reset to the device.", 2 AN0/OA2OUT/RA0 (io), 3 AN1/C2IN1+/RA1 (io), 4 PGED3/VREF-/AN2/C2IN1-/~{SS1}/RPI32/CTED2/RB0 (io), 5 PGEC3/VREF+/AN3/OA1OUT/RPI33/CTED1/RB1 (io), 6 PGEC1/AN4/C1IN1+/RPI34/RB2 (io), 7 PGED1/AN5/C1IN1-/RP35/RB3 (io), 8 VSS (power) "Ground reference for logic and I/O pins.", 9 OSC1/CLKI/RA2 (io), 10 OSC2/CLKO/RA3 (io), 11 FLT32/RP36/RB4 (io), 12 CVREF2O/RP20/T1CK/RA4 (io), 13 VDD (power) "Positive supply for peripheral logic and I/O pins.", 14 PGED2/ASDA2/RP37/RB5 (io), 15 PGEC2/ASCL2/RP38/RB6 (io), 16 SCK1/RP39/INT0/RB7 (io), 17 TCK/CVREF1O/ASCL1/SDO1/RP40/T4CK/RB8 (io), 18 TMS/ASDA1/SDI1/RP41/RB9 (io), 19 VSS (power) "Ground reference for logic and I/O pins.", 20 VCAP "CPU logic filter capacitor connection.", 21 TDO/RP42/PWM3H/RB10 (io), 22 TDI/RP43/PWM3L/RB11 (io), 23 RPI44/PWM2H/RB12 (io), 24 RPI45/PWM2L/CTPLS/RB13 (io), 25 RPI46/PWM1H/T3CK/RB14 (io), 26 RPI47/PWM1L/T5CK/RB15 (io), 27 AVSS (power) "Ground reference for analog modules. This pin must be connected at all times.", 28 AVDD (power) "Positive supply for analog modules. This pin must be connected at all times."

## PIC24EP256MC202-I/SP
designator U?
16-Bit Microcontroller and Digital Signal Controller with High-Speed PWM, Op Amps and Advanced Analog, 70 MIPS, 21 I/O, GPIO, -40 to 85 degC, 28-pin SPDIP (SP28), Tube; Manufacturer: Microchip; PartNumber: PIC24EP256MC202-I/SP; DatasheetVersion: Rev. F; PackageVersion: C04-070B; PackageReference: SPDIP-SP28; PackageDescription: 28-Lead Plastic Dual In-Line, 34.86 x 6.79 mm Body, 2.54 mm Pitch; Supplier 1: Digi-Key; Supplier Part Number 1: PIC24EP256MC202-I/SP-ND; Supplier 2: Farnell; Supplier Part Number 2: 2212168; Supplier 3: Newark; Supplier Part Number 3: 66T9164; Supplier 4: Mouser; Supplier Part Number 4: 579-PIC24256MC202ISP; Mounting Technology: Through Hole; ComponentLink1Description: Manufacturer URL; ComponentLink1URL: http://www.microchip.com; ComponentLink2Description: Datasheet; ComponentLink2URL: http://ww1.microchip.com/downloads/en/DeviceDoc/70657F.pdf; ComponentLink3Description: Package Specification; ComponentLink3URL: http://www.microchip.com/stellent/groups/techpub_sg/documents/packagingspec/en012702.pdf; ComponentLink4Description: Product URL; ComponentLink4URL: http://www.microchip.com/PIC24EP256MC202
footprint MCHP-SPDIP-SP28 (DIP, 28-Leads, Body 34.86x6.79mm, Pitch 2.54mm)
pins: 1 ~{MCLR} (in) "Master Clear (Reset) input. This pin is an active-low Reset to the device.", 2 AN0/OA2OUT/RA0 (io), 3 AN1/C2IN1+/RA1 (io), 4 PGED3/VREF-/AN2/C2IN1-/~{SS1}/RPI32/CTED2/RB0 (io), 5 PGEC3/VREF+/AN3/OA1OUT/RPI33/CTED1/RB1 (io), 6 PGEC1/AN4/C1IN1+/RPI34/RB2 (io), 7 PGED1/AN5/C1IN1-/RP35/RB3 (io), 8 VSS (power) "Ground reference for logic and I/O pins.", 9 OSC1/CLKI/RA2 (io), 10 OSC2/CLKO/RA3 (io), 11 FLT32/RP36/RB4 (io), 12 CVREF2O/RP20/T1CK/RA4 (io), 13 VDD (power) "Positive supply for peripheral logic and I/O pins.", 14 PGED2/ASDA2/RP37/RB5 (io), 15 PGEC2/ASCL2/RP38/RB6 (io), 16 SCK1/RP39/INT0/RB7 (io), 17 TCK/CVREF1O/ASCL1/SDO1/RP40/T4CK/RB8 (io), 18 TMS/ASDA1/SDI1/RP41/RB9 (io), 19 VSS (power) "Ground reference for logic and I/O pins.", 20 VCAP "CPU logic filter capacitor connection.", 21 TDO/RP42/PWM3H/RB10 (io), 22 TDI/RP43/PWM3L/RB11 (io), 23 RPI44/PWM2H/RB12 (io), 24 RPI45/PWM2L/CTPLS/RB13 (io), 25 RPI46/PWM1H/T3CK/RB14 (io), 26 RPI47/PWM1L/T5CK/RB15 (io), 27 AVSS (power) "Ground reference for analog modules. This pin must be connected at all times.", 28 AVDD (power) "Positive supply for analog modules. This pin must be connected at all times."

## PIC24EP256MC204-I/ML
designator U?
16-Bit Microcontroller and Digital Signal Controller with High-Speed PWM, Op Amps and Advanced Analog, 70 MIPS, 35 I/O, GPIO, -40 to 85 degC, 44-pin QFN (ML44), Tube; Manufacturer: Microchip; PartNumber: PIC24EP256MC204-I/ML; DatasheetVersion: Rev. F; PackageVersion: C04-103C; PackageReference: QFN-ML44; PackageDescription: 44-Lead Plastic Quad Flat, 8 x 8 mm Body, 0.65 mm Pitch; Supplier 1: Digi-Key; Supplier Part Number 1: PIC24EP256MC204-I/ML-ND; Supplier 2: Farnell; Supplier Part Number 2: 2212166; Supplier 3: Newark; Supplier Part Number 3: 66T9173; Supplier 4: Mouser; Supplier Part Number 4: 579-PIC24256MC204IML; Mounting Technology: Surface Mount; ComponentLink1Description: Manufacturer URL; ComponentLink1URL: http://www.microchip.com; ComponentLink2Description: Datasheet; ComponentLink2URL: http://ww1.microchip.com/downloads/en/DeviceDoc/70657F.pdf; ComponentLink3Description: Package Specification; ComponentLink3URL: http://www.microchip.com/stellent/groups/techpub_sg/documents/packagingspec/en012702.pdf; ComponentLink4Description: Product URL; ComponentLink4URL: http://www.microchip.com/PIC24EP256MC204
footprint MCHP-QFN-ML44_N (QFN, 44-Leads, Body 8x8mm, Pitch 0.65mm, Thermal Pad 6.425x6.425mm, IPC Medium Density)
footprint MCHP-QFN-ML44_L (QFN, 44-Leads, Body 8x8mm, Pitch 0.65mm, Thermal Pad 6.425x6.425mm, IPC High Density)
footprint MCHP-QFN-ML44_M (QFN, 44-Leads, Body 8x8mm, Pitch 0.65mm, Thermal Pad 6.425x6.425mm, IPC Low Density)
pins: 1 TMS/ASDA1/RP41/RB9 (io), 2 RP54/RC6 (io), 3 RP55/RC7 (io), 4 RP56/RC8 (io), 5 RP57/RC9 (io), 6 VSS (power) "Ground reference for logic and I/O pins.", 7 VCAP "CPU logic filter capacitor connection", 8 RP42/PWM3H/RB10 (io), 9 RP43/PWM3L/RB11 (io), 10 RPI44/PWM2H/RB12 (io), 11 RPI45/PWM2L/CTPLS/RB13 (io), 12 TDO/RA10 (io), 13 TDI/RA7 (io), 14 RPI46/PWM1H/T3CK/RB14 (io), 15 RPI47/PWM1L/T5CK/RB15 (io), 16 AVSS (power) "Ground reference for analog modules. This pin must be connected at all times.", 17 AVDD (power) "Positive supply for analog modules. This pin must be connected at all times.", 18 ~{MCLR} (in) "Master Clear (Reset) input. This pin is an active-low Reset to the device.", 19 AN0/OA2OUT/RA0 (io), 20 AN1/C2IN1+/RA1 (io), 21 PGED3/VREF-/AN2/C2IN1-/~{SS1}/RPI32/CTED2/RB0 (io), 22 PGEC3/VREF+/AN3/OA1OUT/RPI33/CTED1/RB1 (io), 23 PGEC1/AN4/C1IN1+/RPI34/RB2 (io), 24 PGED1/AN5/C1IN1-/RP35/RB3 (io), 25 AN6/OA3OUT/C4IN1+/OCFB/RC0 (io), 26 AN7/C3IN1-/C4IN1-/RC1 (io), 27 AN8/C3IN1+/~{U1RTS}/BCLK1/FLT3/RC2 (io), 28 VDD (power) "Positive supply for peripheral logic and I/O pins.", 29 VSS (power) "Ground reference for logic and I/O pins.", 30 OSC1/CLKI/RA2 (io), 31 OSC2/CLKO/RA3 (io), 32 SDA2/RPI24/RA8 (io), 33 FLT32/SCL2/RP36/RB4 (io), 34 CVREF2O/SDO1/RP20/T1CK/RA4 (io), 35 SDI1/RPI25/RA9 (io), 36 SCK1/RPI51/RC3 (io), 37 SDA1/RPI52/RC4 (io), 38 SCL1/RPI53/RC5 (io), 39 VSS (power) "Ground reference for logic and I/O pins.", 40 VDD (power) "Positive supply for peripheral logic and I/O pins.", 41 PGED2/ASDA2/RP37/RB5 (io), 42 PGEC2/ASCL2/RP38/RB6 (io), 43 RP39/INT0/RB7 (io), 44 TCK/CVREF1O/ASCL1/RP40/T4CK/RB8 (io)

## PIC24EP256MC206-I/MR
designator U?
16-Bit Microcontroller and Digital Signal Controller with High-Speed PWM, Op Amps and Advanced Analog, 70 MIPS, 53 I/O, GPIO, -40 to 85 degC, 64-pin QFN (MR64), Tube; Manufacturer: Microchip; PartNumber: PIC24EP256MC206-I/MR; DatasheetVersion: Rev. F; PackageVersion: C04-149C; PackageReference: QFN-MR64; PackageDescription: 64-Lead Plastic Quad Flat, 9 x 9 mm Body, 0.5 mm Pitch; Supplier 1: Digi-Key; Supplier Part Number 1: PIC24EP256MC206-I/MR-ND; Supplier 2: Farnell; Supplier Part Number 2: 2212164; Supplier 3: Newark; Supplier Part Number 3: 66T9183; Supplier 4: Mouser; Supplier Part Number 4: 579-PIC24256MC206IMR; Mounting Technology: Surface Mount; ComponentLink1Description: Manufacturer URL; ComponentLink1URL: http://www.microchip.com; ComponentLink2Description: Datasheet; ComponentLink2URL: http://ww1.microchip.com/downloads/en/DeviceDoc/70657F.pdf; ComponentLink3Description: Package Specification; ComponentLink3URL: http://www.microchip.com/stellent/groups/techpub_sg/documents/packagingspec/en012702.pdf; ComponentLink4Description: Product URL; ComponentLink4URL: http://www.microchip.com/PIC24EP256MC206
footprint MCHP-QFN-MR64-7275X7275TP_N (QFN, 64-Leads, Body 9x9mm, Pitch 0.5mm, Thermal Pad 7.275x7.275mm, IPC Medium Density)
footprint MCHP-QFN-MR64-7275X7275TP_L (QFN, 64-Leads, Body 9x9mm, Pitch 0.5mm, Thermal Pad 7.275x7.275mm, IPC High Density)
footprint MCHP-QFN-MR64-7275X7275TP_M (QFN, 64-Leads, Body 9x9mm, Pitch 0.5mm, Thermal Pad 7.275x7.275mm, IPC Low Density)
pins: 1 TDI/RA7 (io), 2 RPI46/PWM1H/T3CK/RB14 (io), 3 RPI47/PWM1L/T5CK/RB15 (io), 4 RP118/RG6 (io), 5 RPI119/RG7 (io), 6 RP120/RG8 (io), 7 ~{MCLR} (in) "Master Clear (Reset) input. This pin is an active-low Reset to the device.", 8 RPI121/RG9 (io), 9 VSS (power) "Ground reference for logic and I/O pins.", 10 VDD (power) "Positive supply for peripheral logic and I/O pins.", 11 AN10/RPI28/RA12 (io), 12 AN9/RPI27/RA11 (io), 13 AN0/OA2OUT/RA0 (io), 14 AN1/C2IN1+/RA1 (io), 15 PGED3/VREF-/AN2/C2IN1-/~{SS1}/RPI32/CTED2/RB0 (io), 16 PGEC3/VREF+/AN3/OA1OUT/RPI33/CTED1/RB1 (io), 17 PGEC1/AN4/C1IN1+/RPI34/RB2 (io), 18 PGED1/AN5/C1IN1-/RP35/RB3 (io), 19 AVDD (power) "Positive supply for analog modules. This pin must be connected at all times.", 20 AVSS (power) "Ground reference for analog modules. This pin must be connected at all times.", 21 AN6/OA3OUT/C4IN1+/OCFB/RC0 (io), 22 AN7/C3IN1-/C4IN1-/RC1 (io), 23 AN8/C3IN1+/~{U1RTS}/BCLK1/FLT3/RC2 (io), 24 AN11/C1IN2-/~{U1CTS}/FLT4/RC11 (io), 25 VSS (power) "Ground reference for logic and I/O pins.", 26 VDD (power) "Positive supply for peripheral logic and I/O pins.", 27 AN12/C2IN2-/~{U2RTS}/BCLK2/RE12 (io), 28 AN13/C3IN2-/~{U2CTS}/RE13 (io), 29 AN14/RPI94/RE14 (io), 30 AN15/RPI95/RE15 (io), 31 SDA2/RPI24/RA8 (io), 32 FLT32/SCL2/RP36/RB4 (io), 33 CVREF2O/SDO1/RP20/T1CK/RA4 (io), 34 SDI1/RPI25/RA9 (io), 35 SCK1/RPI51/RC3 (io), 36 SDA1/RPI52/RC4 (io), 37 SCL1/RPI53/RC5 (io), 38 VDD (power) "Positive supply for peripheral logic and I/O pins.", 39 OSC1/CLKI/RC12 (io), 40 OSC2/CLKO/RC15 (io), 41 VSS (power) "Ground reference for logic and I/O pins.", 42 RD8 (io) "PORTD is a bidirectional I/O port", 43 PGED2/ASDA2/RP37/RB5 (io), 44 PGEC2/ASCL2/RP38/RB6 (io), 45 RPI58/RC10 (io), 46 RP39/INT0/RB7 (io), 47 RC13 (io) "PORTC is a bidirectional I/O port", 48 TCK/CVREF1O/ASCL1/RP40/T4CK/RB8 (io), 49 TMS/ASDA1/RP41/RB9 (io), 50 RP54/RC6 (io), 51 RP55/RC7 (io), 52 RP56/RC8 (io), 53 RD5 (io) "PORTD is a bidirectional I/O port", 54 RD6 (io) "PORTD is a bidirectional I/O port", 55 RP57/RC9 (io), 56 VCAP "CPU logic filter capacitor connection", 57 VDD (power) "Positive supply for peripheral logic and I/O pins.", 58 RPI96/RF0 (io), 59 RP97/RF1 (io), 60 RP42/PWM3H/RB10 (io), 61 RP43/PWM3L/RB11 (io), 62 RPI44/PWM2H/RB12 (io), 63 RPI45/PWM2L/CTPLS/RB13 (io), 64 TDO/RA10 (io), 65 EP (power) "The metal pad at the bottom of the device is not connected to any pins and is recommended to be connected to VSS externally."

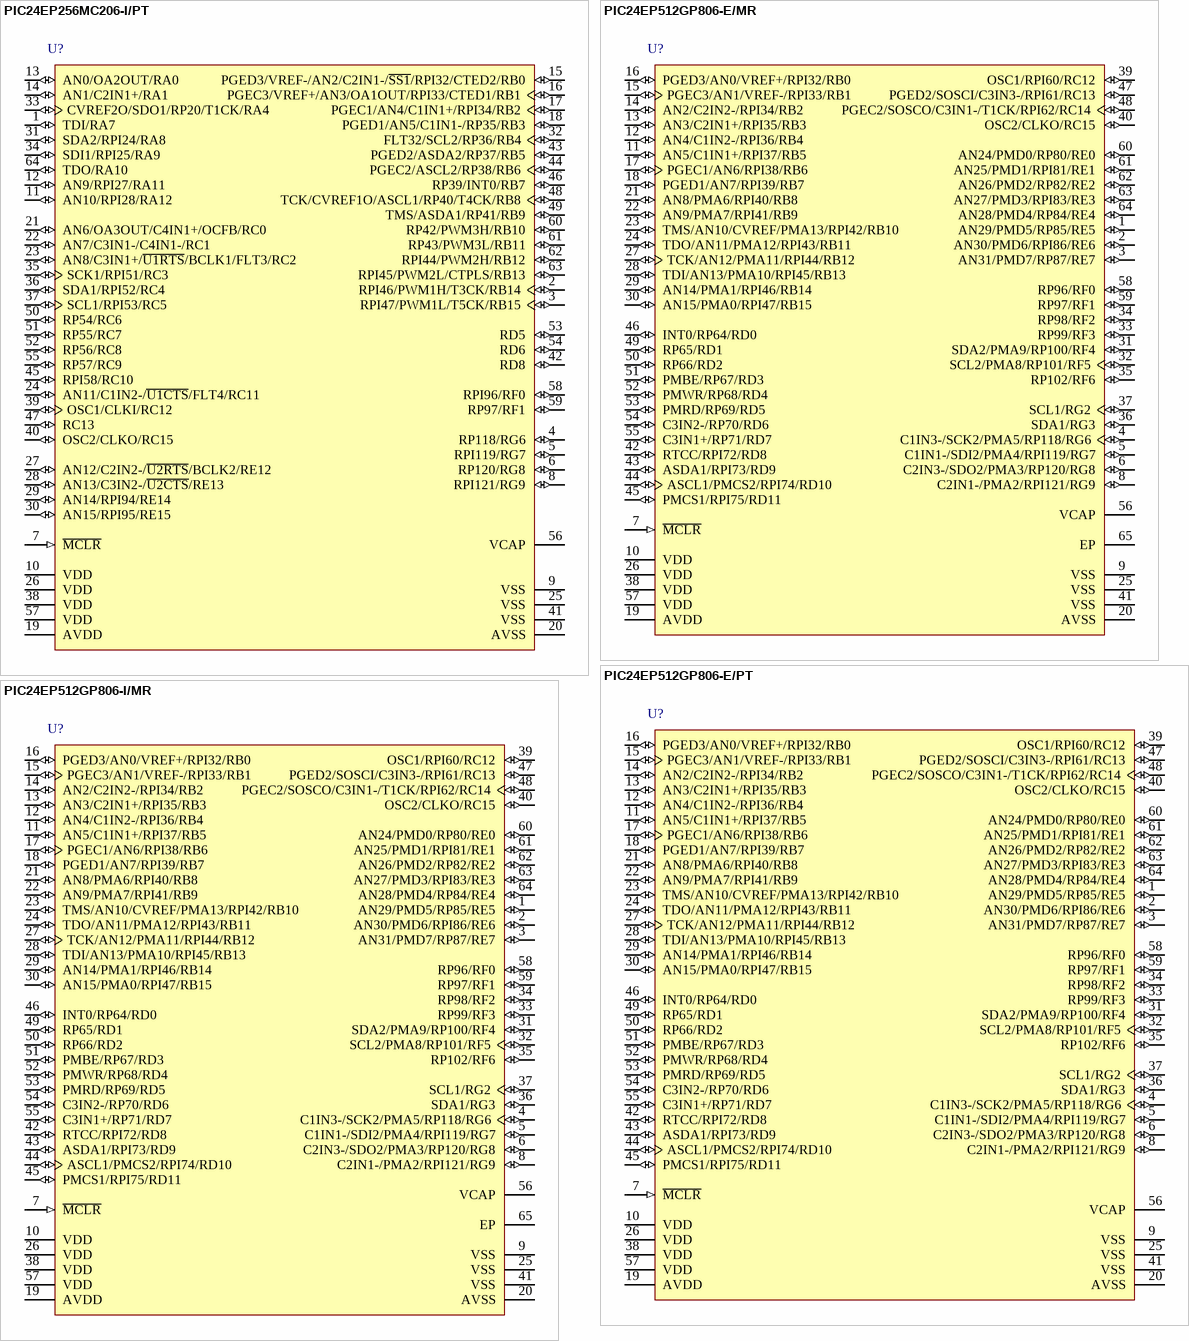
[diagram p23: symbols PIC24EP256MC206-I/PT to PIC24EP512GP806-I/MR]

## PIC24EP256MC206-I/PT
designator U?
16-Bit Microcontroller and Digital Signal Controller with High-Speed PWM, Op Amps and Advanced Analog, 70 MIPS, 53 I/O, GPIO, -40 to 85 degC, 64-pin TQFP (PT64), Tray; Manufacturer: Microchip; PartNumber: PIC24EP256MC206-I/PT; DatasheetVersion: Rev. F; PackageVersion: C04-085B; PackageReference: TQFP-PT64; PackageDescription: 64-Lead Plastic Thin Quad FlatPack, 10 x 10 mm Body, 0.5 mm Pitch; Supplier 1: Digi-Key; Supplier Part Number 1: PIC24EP256MC206-I/PT-ND; Supplier 2: Farnell; Supplier Part Number 2: 2212163; Supplier 3: Newark; Supplier Part Number 3: 66T9184; Supplier 4: Mouser; Supplier Part Number 4: 579-PIC24256MC206IPT; Mounting Technology: Surface Mount; ComponentLink1Description: Manufacturer URL; ComponentLink1URL: http://www.microchip.com; ComponentLink2Description: Datasheet; ComponentLink2URL: http://ww1.microchip.com/downloads/en/DeviceDoc/70657F.pdf; ComponentLink3Description: Package Specification; ComponentLink3URL: http://www.microchip.com/stellent/groups/techpub_sg/documents/packagingspec/en012702.pdf; ComponentLink4Description: Product URL; ComponentLink4URL: http://www.microchip.com/PIC24EP256MC206
footprint MCHP-TQFP-PT64_N (TQFP, 64-Leads, Body 10x10mm, Pitch 0.5mm, IPC Medium Density)
footprint MCHP-TQFP-PT64_L (TQFP, 64-Leads, Body 10x10mm, Pitch 0.5mm, IPC High Density)
footprint MCHP-TQFP-PT64_M (TQFP, 64-Leads, Body 10x10mm, Pitch 0.5mm, IPC Low Density)
pins: 1 TDI/RA7 (io), 2 RPI46/PWM1H/T3CK/RB14 (io), 3 RPI47/PWM1L/T5CK/RB15 (io), 4 RP118/RG6 (io), 5 RPI119/RG7 (io), 6 RP120/RG8 (io), 7 ~{MCLR} (in) "Master Clear (Reset) input. This pin is an active-low Reset to the device.", 8 RPI121/RG9 (io), 9 VSS (power) "Ground reference for logic and I/O pins.", 10 VDD (power) "Positive supply for peripheral logic and I/O pins.", 11 AN10/RPI28/RA12 (io), 12 AN9/RPI27/RA11 (io), 13 AN0/OA2OUT/RA0 (io), 14 AN1/C2IN1+/RA1 (io), 15 PGED3/VREF-/AN2/C2IN1-/~{SS1}/RPI32/CTED2/RB0 (io), 16 PGEC3/VREF+/AN3/OA1OUT/RPI33/CTED1/RB1 (io), 17 PGEC1/AN4/C1IN1+/RPI34/RB2 (io), 18 PGED1/AN5/C1IN1-/RP35/RB3 (io), 19 AVDD (power) "Positive supply for analog modules. This pin must be connected at all times.", 20 AVSS "Ground reference for analog modules. This pin must be connected at all times.", 21 AN6/OA3OUT/C4IN1+/OCFB/RC0 (io), 22 AN7/C3IN1-/C4IN1-/RC1 (io), 23 AN8/C3IN1+/~{U1RTS}/BCLK1/FLT3/RC2 (io), 24 AN11/C1IN2-/~{U1CTS}/FLT4/RC11 (io), 25 VSS "Ground reference for logic and I/O pins.", 26 VDD (power) "Positive supply for peripheral logic and I/O pins.", 27 AN12/C2IN2-/~{U2RTS}/BCLK2/RE12 (io), 28 AN13/C3IN2-/~{U2CTS}/RE13 (io), 29 AN14/RPI94/RE14 (io), 30 AN15/RPI95/RE15 (io), 31 SDA2/RPI24/RA8 (io), 32 FLT32/SCL2/RP36/RB4 (io), 33 CVREF2O/SDO1/RP20/T1CK/RA4 (io), 34 SDI1/RPI25/RA9 (io), 35 SCK1/RPI51/RC3 (io), 36 SDA1/RPI52/RC4 (io), 37 SCL1/RPI53/RC5 (io), 38 VDD (power) "Positive supply for peripheral logic and I/O pins.", 39 OSC1/CLKI/RC12 (io), 40 OSC2/CLKO/RC15 (io), 41 VSS "Ground reference for logic and I/O pins.", 42 RD8 (io) "PORTD is a bidirectional I/O port", 43 PGED2/ASDA2/RP37/RB5 (io), 44 PGEC2/ASCL2/RP38/RB6 (io), 45 RPI58/RC10 (io), 46 RP39/INT0/RB7 (io), 47 RC13 (io) "PORTC is a bidirectional I/O port", 48 TCK/CVREF1O/ASCL1/RP40/T4CK/RB8 (io), 49 TMS/ASDA1/RP41/RB9 (io), 50 RP54/RC6 (io), 51 RP55/RC7 (io), 52 RP56/RC8 (io), 53 RD5 (io) "PORTD is a bidirectional I/O port", 54 RD6 (io) "PORTD is a bidirectional I/O port", 55 RP57/RC9 (io), 56 VCAP "CPU logic filter capacitor connection", 57 VDD (power) "Positive supply for peripheral logic and I/O pins.", 58 RPI96/RF0 (io), 59 RP97/RF1 (io), 60 RP42/PWM3H/RB10 (io), 61 RP43/PWM3L/RB11 (io), 62 RPI44/PWM2H/RB12 (io), 63 RPI45/PWM2L/CTPLS/RB13 (io), 64 TDO/RA10 (io)

## PIC24EP512GP806-E/MR
designator U?
16-Bit Microcontroller and Digital Signal Controller with High-Speed PWM, USB and Advanced Analog, 70 MIPS, 53 I/O, -40 to 125 degC, 64-pin QFN (MR64), Tube; Manufacturer: Microchip; PartNumber: PIC24EP512GP806-E/MR; DatasheetVersion: Rev. G; PackageVersion: C04-149C; PackageReference: QFN-MR64; PackageDescription: 64-Lead Plastic Quad Flat, 9 x 9 mm Body, 0.5 mm Pitch; Supplier 1: Digi-Key; Supplier Part Number 1: PIC24EP512GP806-E/MR-ND; Supplier 2: Newark; Supplier Part Number 2: 73T1303; Supplier 3: Mouser; Supplier Part Number 3: 579-24EP512GP806EMR; Mounting Technology: Surface Mount; ComponentLink1Description: Manufacturer URL; ComponentLink1URL: http://www.microchip.com; ComponentLink2Description: Datasheet; ComponentLink2URL: http://ww1.microchip.com/downloads/en/DeviceDoc/70616g.pdf; ComponentLink3Description: Package Specification; ComponentLink3URL: http://www.microchip.com/stellent/groups/techpub_sg/documents/packagingspec/en012702.pdf; ComponentLink4Description: Product URL; ComponentLink4URL: http://www.microchip.com/PIC24EP512GP806
footprint MCHP-QFN-MR64-7275X7275TP_N (QFN, 64-Leads, Body 9x9mm, Pitch 0.5mm, Thermal Pad 7.275x7.275mm, IPC Medium Density)
footprint MCHP-QFN-MR64-7275X7275TP_L (QFN, 64-Leads, Body 9x9mm, Pitch 0.5mm, Thermal Pad 7.275x7.275mm, IPC High Density)
footprint MCHP-QFN-MR64-7275X7275TP_M (QFN, 64-Leads, Body 9x9mm, Pitch 0.5mm, Thermal Pad 7.275x7.275mm, IPC Low Density)
pins: 1 AN29/PMD5/RP85/RE5 (io), 2 AN30/PMD6/RPI86/RE6 (io), 3 AN31/PMD7/RP87/RE7 (io), 4 C1IN3-/SCK2/PMA5/RP118/RG6 (io), 5 C1IN1-/SDI2/PMA4/RPI119/RG7 (io), 6 C2IN3-/SDO2/PMA3/RP120/RG8 (io), 7 ~{MCLR} (in) "Master Clear (Reset) input. This pin is an active-low Reset to the device.", 8 C2IN1-/PMA2/RPI121/RG9 (io), 9 VSS (power) "Ground reference for logic and I/O pins.", 10 VDD (power) "Positive supply for peripheral logic and I/O pins.", 11 AN5/C1IN1+/RPI37/RB5 (io), 12 AN4/C1IN2-/RPI36/RB4 (io), 13 AN3/C2IN1+/RPI35/RB3 (io), 14 AN2/C2IN2-/RPI34/RB2 (io), 15 PGEC3/AN1/VREF-/RPI33/RB1 (io), 16 PGED3/AN0/VREF+/RPI32/RB0 (io), 17 PGEC1/AN6/RPI38/RB6 (io), 18 PGED1/AN7/RPI39/RB7 (io), 19 AVDD (power) "Positive supply for analog modules. This pin must be connected at all times.", 20 AVSS (power) "Ground reference for analog modules.", 21 AN8/PMA6/RPI40/RB8 (io), 22 AN9/PMA7/RPI41/RB9 (io), 23 TMS/AN10/CVREF/PMA13/RPI42/RB10 (io), 24 TDO/AN11/PMA12/RPI43/RB11 (io), 25 VSS (power) "Ground reference for logic and I/O pins.", 26 VDD (power) "Positive supply for peripheral logic and I/O pins.", 27 TCK/AN12/PMA11/RPI44/RB12 (io), 28 TDI/AN13/PMA10/RPI45/RB13 (io), 29 AN14/PMA1/RPI46/RB14 (io), 30 AN15/PMA0/RPI47/RB15 (io), 31 SDA2/PMA9/RP100/RF4 (io), 32 SCL2/PMA8/RP101/RF5 (io), 33 RP99/RF3 (io), 34 RP98/RF2 (io), 35 RP102/RF6 (io), 36 SDA1/RG3 (io), 37 SCL1/RG2 (io), 38 VDD (power) "Positive supply for peripheral logic and I/O pins.", 39 OSC1/RPI60/RC12 (io), 40 OSC2/CLKO/RC15 (io), 41 VSS (power) "Ground reference for logic and I/O pins.", 42 RTCC/RPI72/RD8 (io), 43 ASDA1/RPI73/RD9 (io), 44 ASCL1/PMCS2/RPI74/RD10 (io), 45 PMCS1/RPI75/RD11 (io), 46 INT0/RP64/RD0 (io), 47 PGED2/SOSCI/C3IN3-/RPI61/RC13 (io), 48 PGEC2/SOSCO/C3IN1-/T1CK/RPI62/RC14 (io), 49 RP65/RD1 (io), 50 RP66/RD2 (io), 51 PMBE/RP67/RD3 (io), 52 PMWR/RP68/RD4 (io), 53 PMRD/RP69/RD5 (io), 54 C3IN2-/RP70/RD6 (io), 55 C3IN1+/RP71/RD7 (io), 56 VCAP "CPU logic filter capacitor connection.", 57 VDD (power) "Positive supply for peripheral logic and I/O pins.", 58 RP96/RF0 (io), 59 RP97/RF1 (io), 60 AN24/PMD0/RP80/RE0 (io), 61 AN25/PMD1/RPI81/RE1 (io), 62 AN26/PMD2/RP82/RE2 (io), 63 AN27/PMD3/RPI83/RE3 (io), 64 AN28/PMD4/RP84/RE4 (io), 65 EP (power)

## PIC24EP512GP806-E/PT
designator U?
16-Bit Microcontroller and Digital Signal Controller with High-Speed PWM, USB and Advanced Analog, 70 MIPS, 53 I/O, -40 to 125 degC, 64-pin TQFP (PT64), Tray; Manufacturer: Microchip; PartNumber: PIC24EP512GP806-E/PT; DatasheetVersion: Rev. G; PackageVersion: C04-085B; PackageReference: TQFP-PT64; PackageDescription: 64-Lead Plastic Thin Quad FlatPack, 10 x 10 mm Body, 0.5 mm Pitch; Supplier 1: Digi-Key; Supplier Part Number 1: PIC24EP512GP806-E/PT-ND; Supplier 2: Newark; Supplier Part Number 2: 73T1304; Supplier 3: Mouser; Supplier Part Number 3: 579-24EP512GP806EPT; Mounting Technology: Surface Mount; ComponentLink1Description: Manufacturer URL; ComponentLink1URL: http://www.microchip.com; ComponentLink2Description: Datasheet; ComponentLink2URL: http://ww1.microchip.com/downloads/en/DeviceDoc/70616g.pdf; ComponentLink3Description: Package Specification; ComponentLink3URL: http://www.microchip.com/stellent/groups/techpub_sg/documents/packagingspec/en012702.pdf; ComponentLink4Description: Product URL; ComponentLink4URL: http://www.microchip.com/PIC24EP512GP806
footprint MCHP-TQFP-PT64_N (TQFP, 64-Leads, Body 10x10mm, Pitch 0.5mm, IPC Medium Density)
footprint MCHP-TQFP-PT64_L (TQFP, 64-Leads, Body 10x10mm, Pitch 0.5mm, IPC High Density)
footprint MCHP-TQFP-PT64_M (TQFP, 64-Leads, Body 10x10mm, Pitch 0.5mm, IPC Low Density)
pins: 1 AN29/PMD5/RP85/RE5 (io), 2 AN30/PMD6/RPI86/RE6 (io), 3 AN31/PMD7/RP87/RE7 (io), 4 C1IN3-/SCK2/PMA5/RP118/RG6 (io), 5 C1IN1-/SDI2/PMA4/RPI119/RG7 (io), 6 C2IN3-/SDO2/PMA3/RP120/RG8 (io), 7 ~{MCLR} (in) "Master Clear (Reset) input. This pin is an active-low Reset to the device.", 8 C2IN1-/PMA2/RPI121/RG9 (io), 9 VSS (power) "Ground reference for logic and I/O pins.", 10 VDD (power) "Positive supply for peripheral logic and I/O pins.", 11 AN5/C1IN1+/RPI37/RB5 (io), 12 AN4/C1IN2-/RPI36/RB4 (io), 13 AN3/C2IN1+/RPI35/RB3 (io), 14 AN2/C2IN2-/RPI34/RB2 (io), 15 PGEC3/AN1/VREF-/RPI33/RB1 (io), 16 PGED3/AN0/VREF+/RPI32/RB0 (io), 17 PGEC1/AN6/RPI38/RB6 (io), 18 PGED1/AN7/RPI39/RB7 (io), 19 AVDD (power) "Positive supply for analog modules. This pin must be connected at all times.", 20 AVSS (power) "Ground reference for analog modules.", 21 AN8/PMA6/RPI40/RB8 (io), 22 AN9/PMA7/RPI41/RB9 (io), 23 TMS/AN10/CVREF/PMA13/RPI42/RB10 (io), 24 TDO/AN11/PMA12/RPI43/RB11 (io), 25 VSS (power) "Ground reference for logic and I/O pins.", 26 VDD (power) "Positive supply for peripheral logic and I/O pins.", 27 TCK/AN12/PMA11/RPI44/RB12 (io), 28 TDI/AN13/PMA10/RPI45/RB13 (io), 29 AN14/PMA1/RPI46/RB14 (io), 30 AN15/PMA0/RPI47/RB15 (io), 31 SDA2/PMA9/RP100/RF4 (io), 32 SCL2/PMA8/RP101/RF5 (io), 33 RP99/RF3 (io), 34 RP98/RF2 (io), 35 RP102/RF6 (io), 36 SDA1/RG3 (io), 37 SCL1/RG2 (io), 38 VDD (power) "Positive supply for peripheral logic and I/O pins.", 39 OSC1/RPI60/RC12 (io), 40 OSC2/CLKO/RC15 (io), 41 VSS (power) "Ground reference for logic and I/O pins.", 42 RTCC/RPI72/RD8 (io), 43 ASDA1/RPI73/RD9 (io), 44 ASCL1/PMCS2/RPI74/RD10 (io), 45 PMCS1/RPI75/RD11 (io), 46 INT0/RP64/RD0 (io), 47 PGED2/SOSCI/C3IN3-/RPI61/RC13 (io), 48 PGEC2/SOSCO/C3IN1-/T1CK/RPI62/RC14 (io), 49 RP65/RD1 (io), 50 RP66/RD2 (io), 51 PMBE/RP67/RD3 (io), 52 PMWR/RP68/RD4 (io), 53 PMRD/RP69/RD5 (io), 54 C3IN2-/RP70/RD6 (io), 55 C3IN1+/RP71/RD7 (io), 56 VCAP "CPU logic filter capacitor connection.", 57 VDD (power) "Positive supply for peripheral logic and I/O pins.", 58 RP96/RF0 (io), 59 RP97/RF1 (io), 60 AN24/PMD0/RP80/RE0 (io), 61 AN25/PMD1/RPI81/RE1 (io), 62 AN26/PMD2/RP82/RE2 (io), 63 AN27/PMD3/RPI83/RE3 (io), 64 AN28/PMD4/RP84/RE4 (io)